# Altium schematic symbol library Schematic-Lib-PhilsLab.SchLib: 436 symbols (part 1 of 5)
Pins are listed as number, name and electrical type; pins without a type are passive.

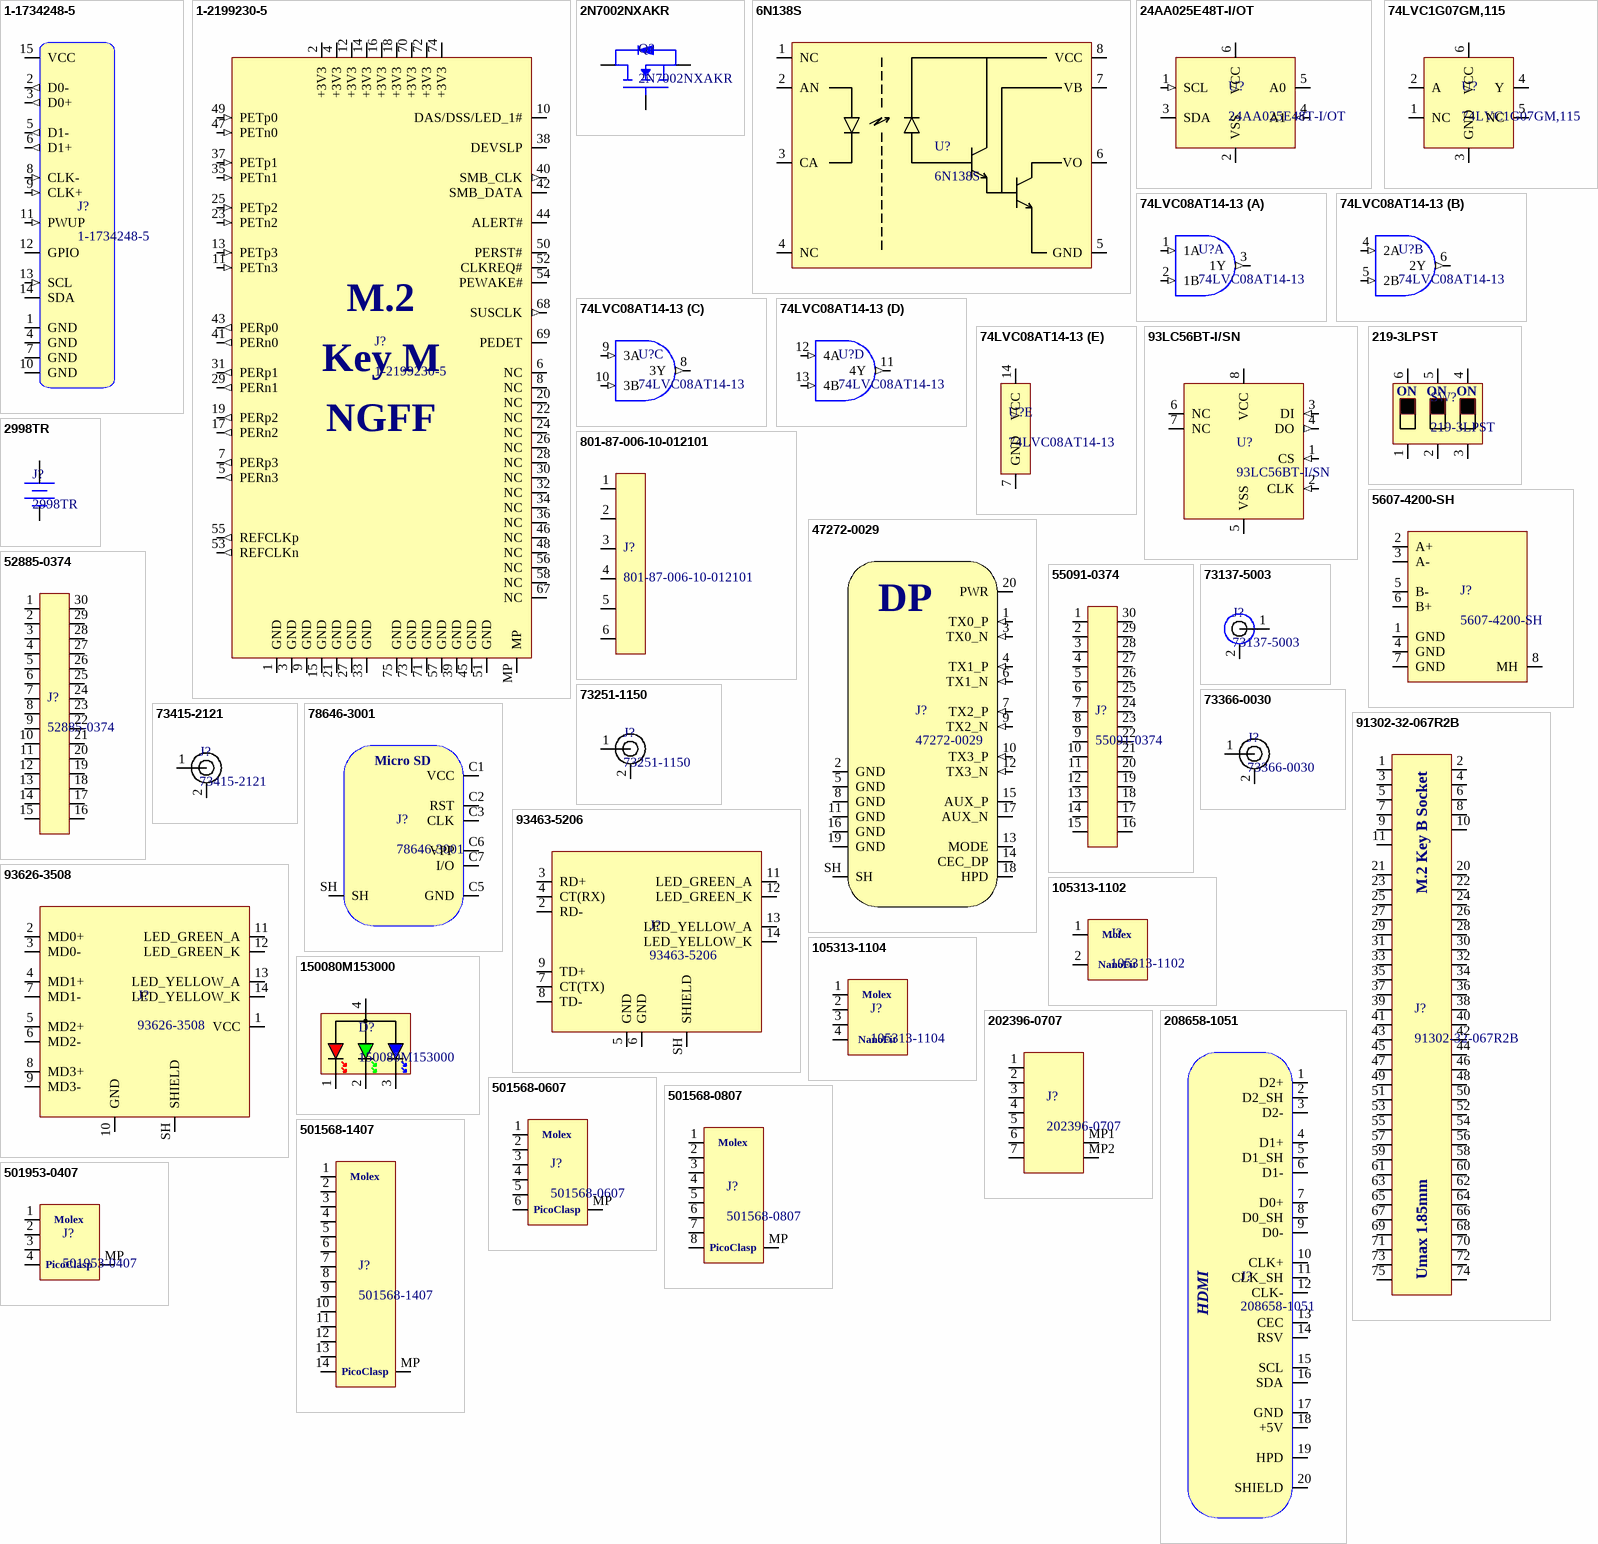
[diagram p0: symbols 1-1734248-5 to 501953-0407]

## 1-1734248-5
designator J?
FFC & FPC Connectors 15P 1.0 FPC, Zip V/T SMT; Manufacturer: TE Connectivity; Manufacturer Part Number: 1-1734248-5; Distributor Link: https://www.mouser.de/ProductDetail/TE-Connectivity/1-1734248-5?qs=sGAEpiMZZMvlX3nhDDO4AGJoiHpVI%252BrLj36UQiWnLiQ%3D; LCSC: C2922285
footprint 1-1734248-5
pins: 1 GND (power), 2 D0- (out), 3 D0+ (out), 4 GND (power), 5 D1- (out), 6 D1+ (out), 7 GND (power), 8 CLK- (in), 9 CLK+ (in), 10 GND (power), 11 PWUP (in), 12 GPIO (io), 13 SCL (in), 14 SDA (io), 15 VCC (power)

## 1-2199230-5
designator J?  (no BOM)
M.2 NGFF Key M Card Edge Connector 0.5mm Pitch 67 Position 4.2mm Height; Manufacturer: TE Connectivity; Manufacturer Part Number: 1-2199230-5; Distributor Link: https://eu.mouser.com/ProductDetail/TE-Connectivity/1-2199230-5?qs=N0TJGnUfxCD5L9UvFjPEwQ%3D%3D; LCSC: C590854
footprint 1-2199230-5
pins: 1 GND (power), 2 +3V3 (power), 3 GND (power), 4 +3V3 (power), 5 PERn3 (out), 6 NC, 7 PERp3 (out), 8 NC, 9 GND (power), 10 DAS/DSS/LED_1#, 11 PETn3 (in), 12 +3V3 (power), 13 PETp3 (in), 14 +3V3 (power), 15 GND (power), 16 +3V3 (power), 17 PERn2 (out), 18 +3V3 (power), 19 PERp2 (out), 20 NC, 21 GND (power), 22 NC, 23 PETn2 (in), 24 NC, 25 PETp2 (in), 26 NC, 27 GND (power), 28 NC, 29 PERn1 (out), 30 NC, 31 PERp1 (out), 32 NC, 33 GND (power), 34 NC, 35 PETn1 (in), 36 NC, 37 PETp1 (in), 38 DEVSLP, 39 GND (power), 40 SMB_CLK (out), 41 PERn0 (out), 42 SMB_DATA (io), 43 PERp0 (out), 44 ALERT#, 45 GND (power), 46 NC, 47 PETn0 (in), 48 NC, 49 PETp0 (in), 50 PERST#, 51 GND (power), 52 CLKREQ#, 53 REFCLKn (out), 54 PEWAKE#, 55 REFCLKp (out), 56 NC, 57 GND (power), 58 NC, 67 NC, 68 SUSCLK (out), 69 PEDET, 70 +3V3 (power), 71 GND (power), 72 +3V3 (power), 73 GND (power), 74 +3V3 (power), 75 GND (power), MP (power)
text: M.2; Key M; NGFF

## 2N7002NXAKR
designator Q?
MOSFET N-Channel Vds=60V Id=300mA with ESD Protection; Manufacturer: Nexperia; Manufacturer Part Number: 2N7002NXAKR
footprint SSM3J338R,LF-SOT23-F
pins: D, G, S

## 6N138S
designator U?
Single-Channel, High-Speed Optocoupler; Manufacturer: Lite-On; Manufacturer Part Number: 6N138S; Distributor Link: https://www.mouser.de/ProductDetail/Lite-On/6N138S?qs=PByDJ0nQNwpiJNZ8Mk8Kdw%3D%3D
footprint SMD-8
pins: 1 NC, 2 AN, 3 CA, 4 NC, 5 GND (power), 6 VO (oc), 7 VB (power), 8 VCC (power)

## 24AA025E48T-I/OT
designator U?
2-Kbit I2C Serial EEPROMs with EUI-48™ Node Identity; Manufacturer: Microchip; Manufacturer Part Number: 24AA025E48T-I/OT; Distributor Link: https://www.mouser.de/ProductDetail/Microchip-Technology/24AA025E48T-I-OT?qs=GCDK0xhvQh4RRiPFFnzHdA%3D%3D; LCSC: C129895
footprint SOT-23-6
pins: 1 SCL (in), 2 VSS (power), 3 SDA (io), 4 A1 (in), 5 A0 (power), 6 VCC (power)

## 74LVC1G07GM,115
designator U?
Open-Drain Buffer 3.3V/5V Non-Inverting XSON-6; Manufacturer: Nexperia; Manufacturer Part Number: 74LVC1G07GM,115
footprint XSON-6-SOT1202 (SON, 6-Leads, Body 0.98x1.00mm, Pitch 0.35mm, IPC Medium Density)
pins: 1 NC, 2 A, 3 GND, 4 Y, 5 NC, 6 VCC

## 74LVC08AT14-13
designator U?
QUADRUPLE 2-INPUT CMOS AND GATES; Manufacturer: Diodes Incorporated; Manufacturer Part Number: 74LVC08AT14-13; Distributor Link: https://eu.mouser.com/ProductDetail/Diodes-Incorporated/74LVC08AT14-13?qs=ZtY9WdtwX5535dJGuTpaIA%3D%3D
footprint TSSOP-14
part A pins: 1 1A (in), 2 1B (in), 3 1Y (out)
part B pins: 4 2A (in), 5 2B (in), 6 2Y (out)
part C pins: 8 3Y (out), 9 3A (in), 10 3B (in)
part D pins: 11 4Y (out), 12 4A (in), 13 4B (in)
part E pins: 7 GND (power), 14 VCC (power)

## 93LC56BT-I/SN
designator U?
2K Microwire Compatible Serial EEPROM; Manufacturer: Microchip; Manufacturer Part Number: 93LC56BT-I/SN; Distributor Link: https://www.mouser.de/ProductDetail/Microchip-Technology/93LC56BT-I-SN?qs=lQv0JY93vreW%252BBssv4v8RA%3D%3D; LCSC: C6164
footprint OLED Display: 128x64, 1.3", (Graphical OLED Display: 128x64, 1.3",)
pins: 1 CS (in), 2 CLK (in), 3 DI (in), 4 DO (out), 5 VSS (power), 6 NC, 7 NC, 8 VCC (power)

## 219-3LPST
designator SW?
DIP Switches SPST 3x; Manufacturer: CTS; Manufacturer Part Number: 219-3LPST
footprint 219-3LPST
pins: 1, 2, 3, 4, 5, 6
text: ON

## 801-87-006-10-012101
designator J?
Pin Socket 6 Position 2.54mm Pitch; Manufacturer: preci-dip; Manufacturer Part Number: 801-87-006-10-012101
footprint 801-87-006-10-012101
pins: 1, 2, 3, 4, 5, 6

## 2998TR
designator J?
Coin Cell Battery Holder 6.8mm; Manufacturer: Keystone Electronics; Manufacturer Part Number: 2998TR
footprint 2998TR (6.8mm Coin Cell Holder SMD)
pins: A, K

## 5607-4200-SH
designator J?
SATA Connector 7-Position 1.27mm Pitch Male Right Angle SMD; Manufacturer: 3M; Manufacturer Part Number: 5607-4200-SH
footprint 5607-4200-SH
pins: 1 GND, 2 A+, 3 A-, 4 GND, 5 B-, 6 B+, 7 GND, 8 MH

## 47272-0029
designator J?
DisplayPort Male Receptacle, Right-Angle, Surface Mount, 0.76µm Gold (Au) Plating, 20 Circuits, 0.50mm Pitch, without Cover, Lead-Free; Manufacturer: Molex; Manufacturer Part Number: 47272-0029; Distributor Link: https://eu.mouser.com/ProductDetail/Molex/47272-0029?qs=R8Vl3J6srxyrbHtT7SkUeQ%3D%3D
footprint 47272-0029
pins: 1 TX0_P (in), 2 GND (power), 3 TX0_N (in), 4 TX1_P (in), 5 GND (power), 6 TX1_N (in), 7 TX2_P (in), 8 GND (power), 9 TX2_N (in), 10 TX3_P (in), 11 GND (power), 12 TX3_N (in), 13 MODE, 14 CEC_DP, 15 AUX_P (io), 16 GND (power), 17 AUX_N (io), 18 HPD, 19 GND (power), 20 PWR (power), SH
text: DP

## 52885-0374
designator J?
SlimStack Board-to-Board Connector, 0.635mm Pitch, 0.635 Series, Receptacle, 6.00 to 10.00mm Mated Height, 6.40mm Mated Width, 30 Circuits; Manufacturer: Molex; Manufacturer Part Number: 52885-0374
footprint 52885-0374
pins: 1, 2, 3, 4, 5, 6, 7, 8, 9, 10, 11, 12, 13, 14, 15, 16, 17, 18, 19, 20, 21, 22, 23, 24, 25, 26, 27, 28, 29, 30

## 55091-0374
designator J?
SlimStack Board-to-Board Connector, 0.635mm Pitch, 0.635 Series, Plug, 6.00 or 12.00mm Mated Height, 6.40mm Mated Width, 30 Circuits; Manufacturer: Molex; Manufacturer Part Number: 55091-0374
footprint 55091-0374
pins: 1, 2, 3, 4, 5, 6, 7, 8, 9, 10, 11, 12, 13, 14, 15, 16, 17, 18, 19, 20, 21, 22, 23, 24, 25, 26, 27, 28, 29, 30

## 73137-5003
designator J?
BNC 50 Ohm, Right-Angle PCB Bulkhead Jack Receptacle, Panel Isolated, Black PBT Housing, Housing Height 13.20mm; Manufacturer: Molex; Manufacturer Part Number: 73137-5003
footprint 73137-5003
pins: 1, 2

## 73251-1150
designator J?
RF Connector 50 Ohms, SMA Jack Receptacle, Edge Mount, .25µm Gold (Au) Plating; Manufacturer: Molex; Manufacturer Part Number: 73251-1150
footprint 73251-1150
pins: 1, 2

## 73366-0030
designator J?
50 Ohms, MCX PCB Jack Receptacle, Right-Angle, 80; Manufacturer: Molex; Manufacturer Part Number: 73366-0030
footprint 73366-0030
pins: 1, 2

## 73415-2121
designator J?
RF Connector 50 Ohms, MMCX Vertical Plug, PCB, Plating Per Commercial Requirements, Bulk; Manufacturer: Molex; Manufacturer Part Number: 73415-2121
footprint 73415-2121
pins: 1, 2

## 78646-3001
designator J?
micro-SIM Card Socket without Detect Switch, 1.45mm Height, Push-Pull Eject, Surface Mount, 6 Circuits, Low-Halogen, Lead-Free; Manufacturer: Molex; Manufacturer Part Number: 78646-3001
footprint 78646-3001
pins: C1 VCC, C2 RST, C3 CLK, C5 GND, C6 VPP, C7 I/O, SH
text: Micro SD

## 91302-32-067R2B
designator J?
M.2 Key B Card Edge Connector 67 Position 0.5mm Pitch 1.85mm Card Height; Manufacturer: Umax; Manufacturer Part Number: 91302-32-067R2B; Distributor Link: https://www.lcsc.com/product-detail/Card-Edge-Connectors_UMAX-91302-32-067R2B_C1509731.html; LCSC: C1509731
footprint 91302-32-067R2B
pins: 1, 2, 3, 4, 5, 6, 7, 8, 9, 10, 11, 20, 21, 22, 23, 24, 25, 26, 27, 28, 29, 30, 31, 32, 33, 34, 35, 36, 37, 38, 39, 40, 41, 42, 43, 44, 45, 46, 47, 48, 49, 50, 51, 52, 53, 54, 55, 56, 57, 58, 59, 60, 61, 62, 63, 64, 65, 66, 67, 68, 69, 70, 71, 72, 73, 74, 75
text: M.2 Key B Socket; Umax 1.85mm

## 93463-5206
designator J?
MXMag Gigabit Ethernet 8 Core Non-PoE Single-Port RJ45 Connector, 21.40mm Depth, 3.30mm Phy Pin Length, Right-Angle, Inverted Profile, with Shield Tabs, with Green-Green LEDs, Standard Temperature, with 2kV Shield Connection, Tray; Manufacturer: Molex; Manufacturer Part Number: 93463-5206
footprint 93463-5206
pins: 2 RD- (io), 3 RD+ (io), 4 CT(RX), 5 GND (power), 6 GND (power), 7 CT(TX), 8 TD- (io), 9 TD+ (io), 11 LED_GREEN_A, 12 LED_GREEN_K, 13 LED_YELLOW_A, 14 LED_YELLOW_K, SH SHIELD (power)

## 93626-3508
designator J?
MXMag Gigabit Ethernet 8 Core Non-PoE Single-Port RJ45 Connector, 21.40mm Depth, 3.30mm Phy Pin Length, Right-Angle, Standard Profile, with Shield Tabs, with Green/Yellow-Green/Yellow LEDs, Standard Temperature, with 2kV Shield Connection; Manufacturer: Molex; Manufacturer Part Number: 93626-3508
footprint 93626-3508
pins: 1 VCC, 2 MD0+, 3 MD0-, 4 MD1+, 5 MD2+, 6 MD2-, 7 MD1-, 8 MD3+, 9 MD3-, 10 GND, 11 LED_GREEN_A, 12 LED_GREEN_K, 13 LED_YELLOW_A, 14 LED_YELLOW_K, SH SHIELD

## 105313-1102
designator J?
Nano-Fit Right-Angle Header, Through Hole, 2.50mm Pitch, Single Row, 2 Circuits, Tin (Sn) Plating, Black, Glow-Wire Capable, Tray; Manufacturer: Molex; Manufacturer Part Number: 105313-1102
footprint 105313-1102
pins: 1, 2
text: NanoFit

## 105313-1104
designator J?
Nano-Fit Right-Angle Header, Through Hole, 2.50mm Pitch, Single Row, 2 Circuits, Tin (Sn) Plating, Black, Glow-Wire Capable, Tray; Manufacturer: Molex; Manufacturer Part Number: 105313-1104
footprint 105313-1104
pins: 1, 2, 3, 4
text: NanoFit

## 150080M153000
designator D?
RGB LED Common Anode SMD Diffused 0805 Top View; Manufacturer: Wurth; Manufacturer Part Number: 150080M153000; Distributor Link: https://www.mouser.de/ProductDetail/Wurth-Elektronik/150080M153000?qs=5aG0NVq1C4wI5cZ2wabu5A%3D%3D
footprint 150080M153000
pins: 1 CR, 2 CG, 3 CB, 4 AC

## 202396-0707
designator J?
1.00mm Pitch, Pico-Clasp PCB Header, Single Row, Right-Angle, Surface Mount, 0.10µm Gold Plated, Inner Positive Lock, 7 Circuits, Natural; Manufacturer: Molex; Manufacturer Part Number: 202396-0707
footprint 202396-0707
pins: 1, 2, 3, 4, 5, 6, 7, MP1, MP2

## 208658-1051
designator J?
HDMI v2.1 Receptacle, Right-Angle, Gold Flash Plating, without Mylar, without Flange, Tape and Reel, 19 Circuits; Manufacturer: Molex; Manufacturer Part Number: 208658-1051
footprint 208658-1051
pins: 1 D2+, 2 D2_SH, 3 D2-, 4 D1+, 5 D1_SH, 6 D1-, 7 D0+, 8 D0_SH, 9 D0-, 10 CLK+, 11 CLK_SH, 12 CLK-, 13 CEC, 14 RSV, 15 SCL, 16 SDA, 17 GND, 18 +5V, 19 HPD, 20 SHIELD
text: HDMI

## 501568-0607
designator J?
1.00mm Pitch, Pico-Clasp PCB Header, Single Row, Right-Angle, Surface Mount, Tin Plated, Outer Positive Lock, 6 Circuits, Natural; Manufacturer: Molex; Manufacturer Part Number: 501568-0607
footprint 501568-0607
pins: 1, 2, 3, 4, 5, 6, MP
text: PicoClasp

## 501568-0807
designator J?
1.00mm Pitch, Pico-Clasp PCB Header, Single Row, Right-Angle, Surface Mount, Tin Plated, Outer Positive Lock, 8 Circuits, Natural; Manufacturer: Molex; Manufacturer Part Number: 501568-0807
footprint 501568-0807
pins: 1, 2, 3, 4, 5, 6, 7, 8, MP
text: PicoClasp

## 501568-1407
designator J?
1.00mm Pitch, Pico-Clasp PCB Header, Single Row, Right-Angle, Surface Mount, Tin Plated, Outer Positive Lock, 14 Circuits, Natural; Manufacturer: Molex; Manufacturer Part Number: 501568-1407
footprint 501568-1407
pins: 1, 2, 3, 4, 5, 6, 7, 8, 9, 10, 11, 12, 13, 14, MP
text: PicoClasp

## 501953-0407
designator J?
1.00mm Pitch, Pico-Clasp PCB Header, Single Row, Right-Angle, Surface Mount, 1.01µm Tin Plated, Outer Positive Lock, 4 Circuits, Natural; Manufacturer: Molex; Manufacturer Part Number: 501953-0407
footprint 501953-0407
pins: 1, 2, 3, 4, MP
text: PicoClasp

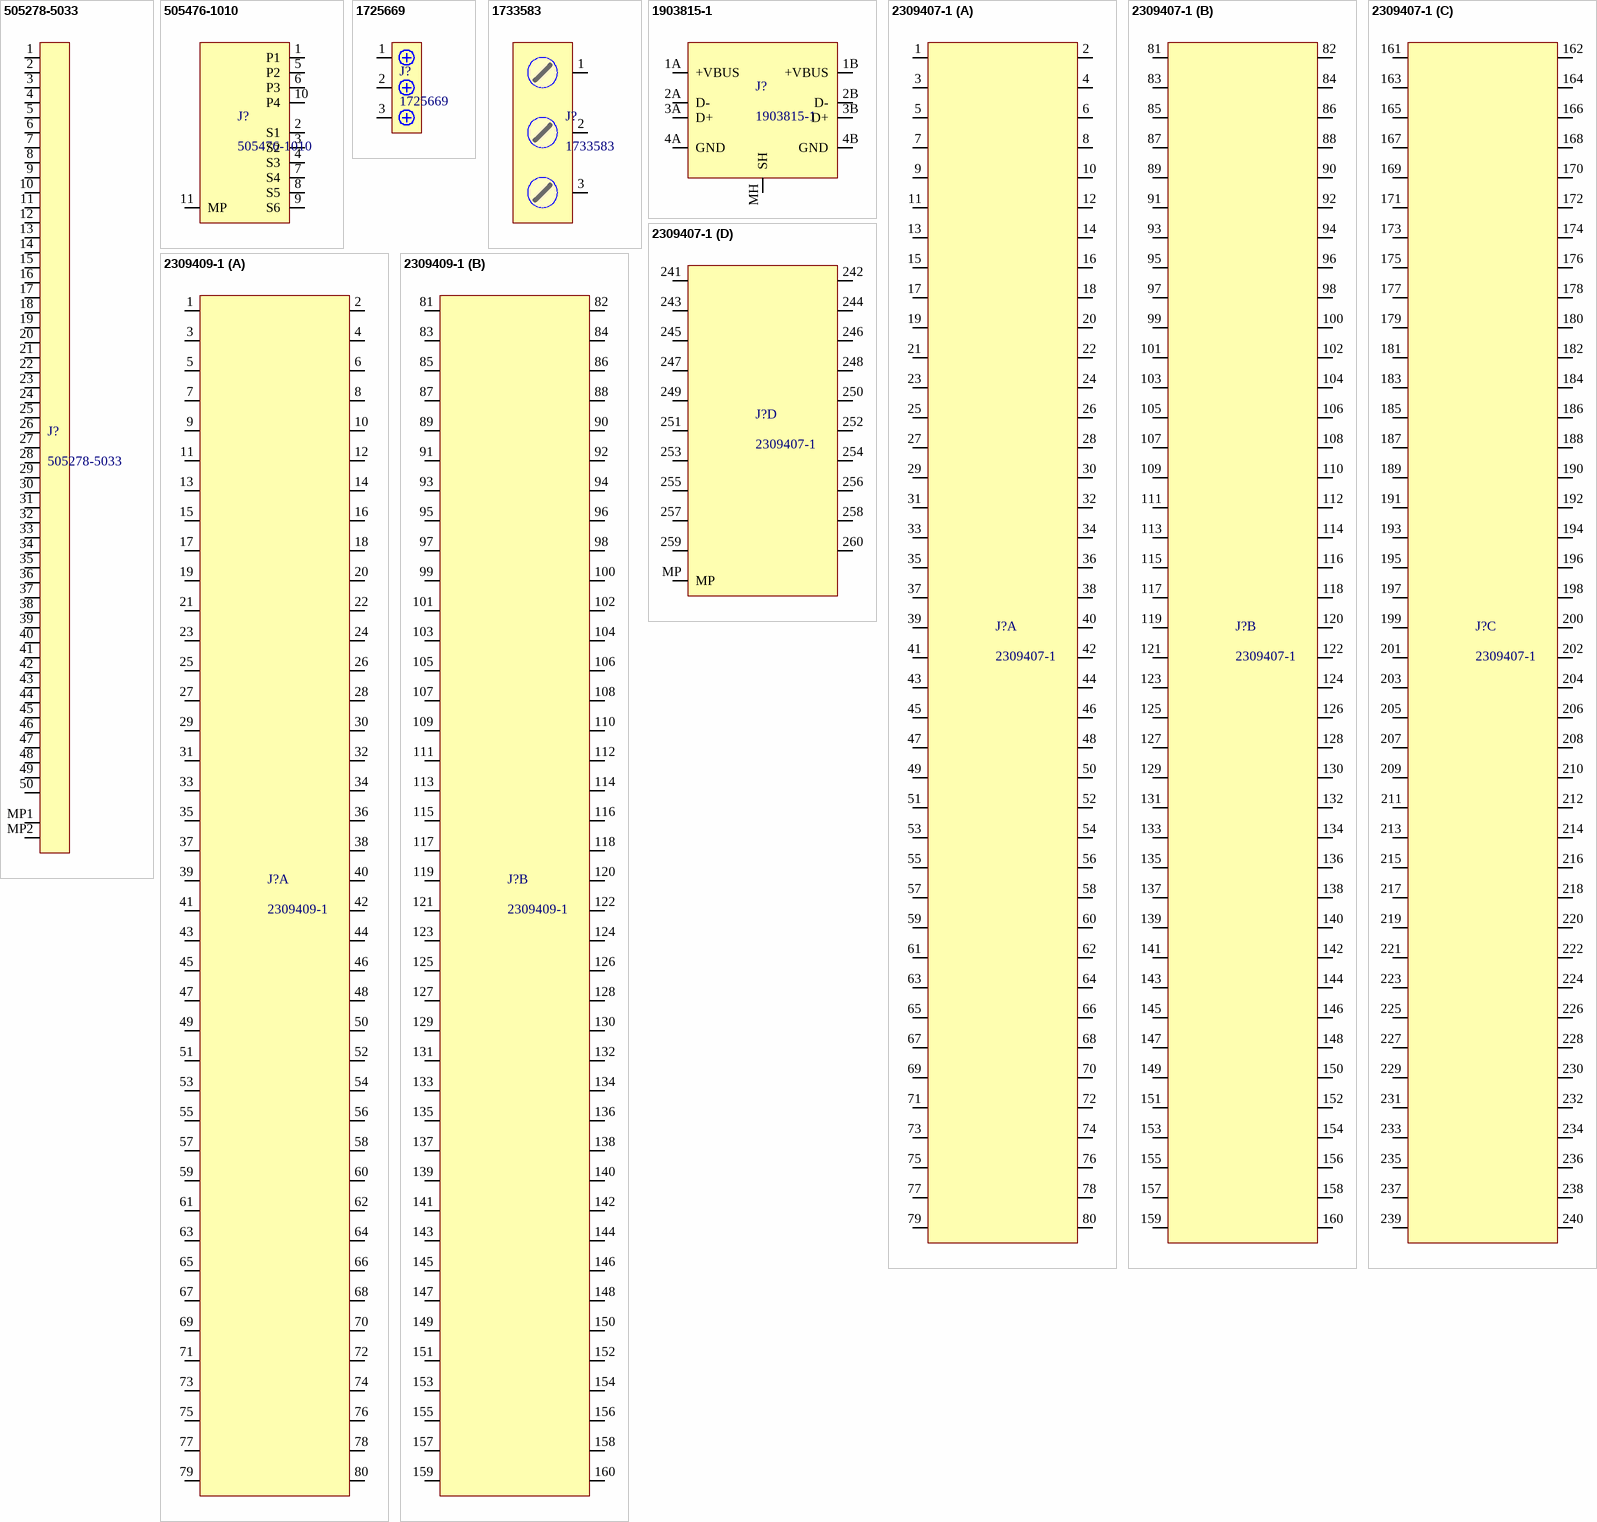
[diagram p1: symbols 505278-5033 to 2309409-1]

## 505278-5033
designator J?
FFC Connector 50 Position 0.5mm Pitch Bottom Contact ZIF; Manufacturer: Molex; Manufacturer Part Number: 505278-5033
footprint 505278-5033
pins: 1, 2, 3, 4, 5, 6, 7, 8, 9, 10, 11, 12, 13, 14, 15, 16, 17, 18, 19, 20, 21, 22, 23, 24, 25, 26, 27, 28, 29, 30, 31, 32, 33, 34, 35, 36, 37, 38, 39, 40, 41, 42, 43, 44, 45, 46, 47, 48, 49, 50, MP1, MP2

## 505476-1010
designator J?
SlimStack Board-to-Board Plug, 0.40mm Pitch, Battery Series, 0.60mm Mated Height, 2.00mm Mated Width, 10 Circuits, 10.0A; Manufacturer: Molex; Manufacturer Part Number: 505476-1010
footprint 505476-1010
pins: 1 P1 (power), 2 S1 (io), 3 S2 (io), 4 S3 (io), 5 P2 (power), 6 P3 (power), 7 S4 (io), 8 S5 (io), 9 S6 (io), 10 P4 (power), 11 MP

## 1725669
designator J?
Screw Terminal Block 3 Positions 2.54mm; Manufacturer: Phoenix; Manufacturer Part Number: 1725669; Distributor Link: https://www.mouser.de/ProductDetail/Phoenix-Contact/1725669?qs=A%2FKWGUWTCZjmkTL0Oe91ew%3D%3D
footprint 1725669
pins: 1, 2, 3

## 1733583
designator J?
Screw Terminal 3 Position 5.08mm Pitch Phoenix; Manufacturer: Phoenix Contact; Manufacturer Part Number: 1733583
footprint 1733583
pins: 1, 2, 3

## 1903815-1
designator J?
USB Connectors, A, 2.0, Standard Profile, Female Receptacle, 2 Port, Top, Right Angle, IP20, Offset, Industrial USB IP20; Manufacturer: TE Connectivity; Manufacturer Part Number: 1903815-1
footprint 1903815-1
pins: 1A +VBUS, 1B +VBUS, 2A D-, 2B D-, 3A D+, 3B D+, 4A GND, 4B GND, MH SH

## 2309407-1
designator J?
SO DIMM Socket, Small Outline (SO), Stack Height .157 in [4 mm], Right Angle Module Orientation, 260 Position, DDR4 DIMM; Manufacturer: TE Connectivity; Manufacturer Part Number: 2309407-1
footprint 2309407-1
part A pins: 1, 2, 3, 4, 5, 6, 7, 8, 9, 10, 11, 12, 13, 14, 15, 16, 17, 18, 19, 20, 21, 22, 23, 24, 25, 26, 27, 28, 29, 30, 31, 32, 33, 34, 35, 36, 37, 38, 39, 40, 41, 42, 43, 44, 45, 46, 47, 48, 49, 50, 51, 52, 53, 54, 55, 56, 57, 58, 59, 60, 61, 62, 63, 64, 65, 66, 67, 68, 69, 70, 71, 72, 73, 74, 75, 76, 77, 78, 79, 80
part B pins: 81, 82, 83, 84, 85, 86, 87, 88, 89, 90, 91, 92, 93, 94, 95, 96, 97, 98, 99, 100, 101, 102, 103, 104, 105, 106, 107, 108, 109, 110, 111, 112, 113, 114, 115, 116, 117, 118, 119, 120, 121, 122, 123, 124, 125, 126, 127, 128, 129, 130, 131, 132, 133, 134, 135, 136, 137, 138, 139, 140, 141, 142, 143, 144, 145, 146, 147, 148, 149, 150, 151, 152, 153, 154, 155, 156, 157, 158, 159, 160
part C pins: 161, 162, 163, 164, 165, 166, 167, 168, 169, 170, 171, 172, 173, 174, 175, 176, 177, 178, 179, 180, 181, 182, 183, 184, 185, 186, 187, 188, 189, 190, 191, 192, 193, 194, 195, 196, 197, 198, 199, 200, 201, 202, 203, 204, 205, 206, 207, 208, 209, 210, 211, 212, 213, 214, 215, 216, 217, 218, 219, 220, 221, 222, 223, 224, 225, 226, 227, 228, 229, 230, 231, 232, 233, 234, 235, 236, 237, 238, 239, 240
part D pins: 241, 242, 243, 244, 245, 246, 247, 248, 249, 250, 251, 252, 253, 254, 255, 256, 257, 258, 259, 260, MP

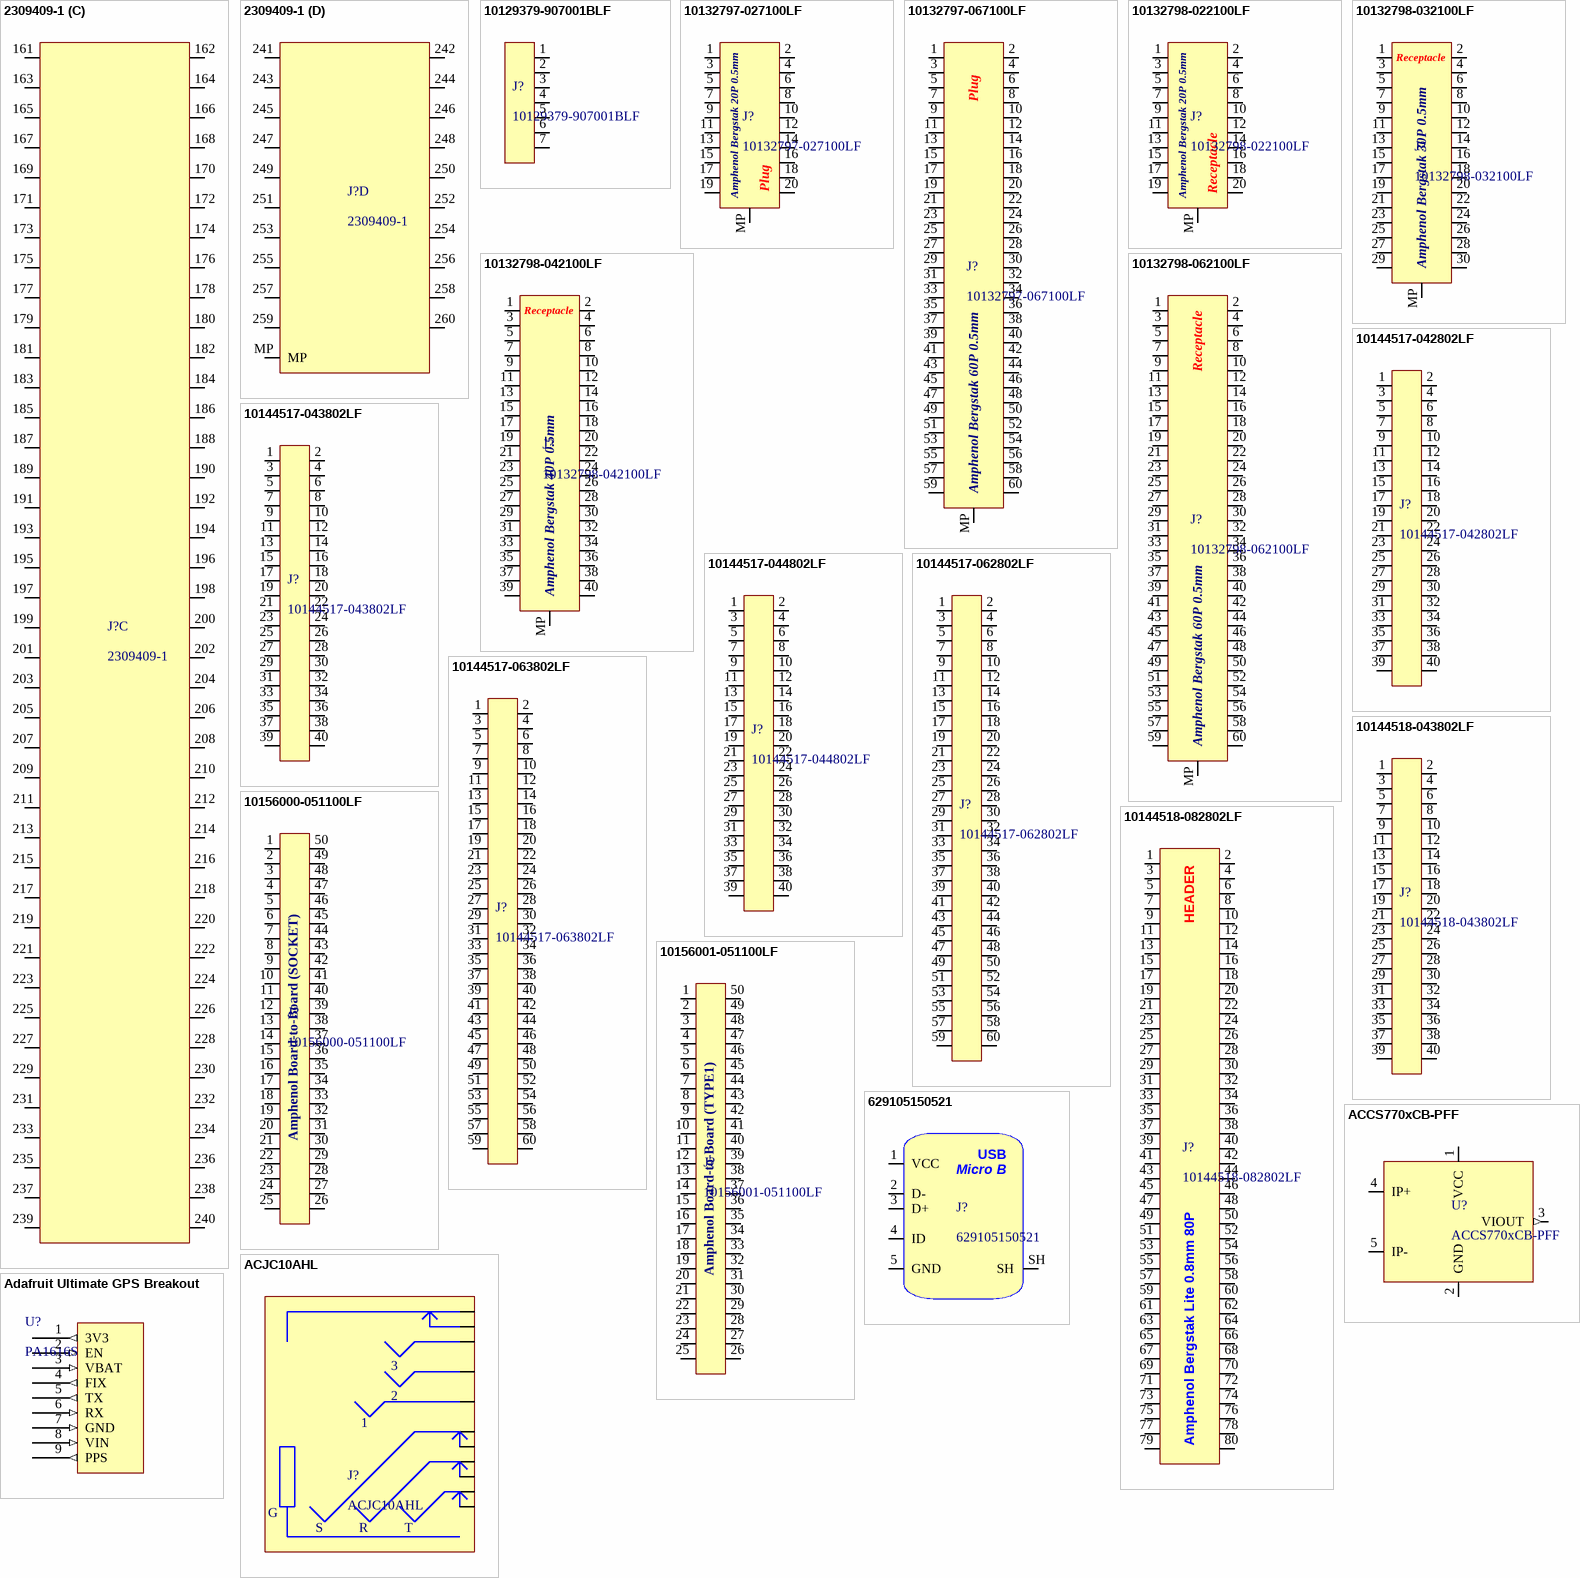
[diagram p2: symbols 2309409-1 to Adafruit Ultimate GPS Breakout]

## 2309409-1
designator J?
SO DIMM Socket, Small Outline (SO), Stack Height .205 in [5.2 mm], Right Angle Module Orientation, 260 Position, DDR4 DIMM; Manufacturer: TE Connectivity; Manufacturer Part Number: 2309409-1
footprint 2309409-1
part A pins: 1, 2, 3, 4, 5, 6, 7, 8, 9, 10, 11, 12, 13, 14, 15, 16, 17, 18, 19, 20, 21, 22, 23, 24, 25, 26, 27, 28, 29, 30, 31, 32, 33, 34, 35, 36, 37, 38, 39, 40, 41, 42, 43, 44, 45, 46, 47, 48, 49, 50, 51, 52, 53, 54, 55, 56, 57, 58, 59, 60, 61, 62, 63, 64, 65, 66, 67, 68, 69, 70, 71, 72, 73, 74, 75, 76, 77, 78, 79, 80
part B pins: 81, 82, 83, 84, 85, 86, 87, 88, 89, 90, 91, 92, 93, 94, 95, 96, 97, 98, 99, 100, 101, 102, 103, 104, 105, 106, 107, 108, 109, 110, 111, 112, 113, 114, 115, 116, 117, 118, 119, 120, 121, 122, 123, 124, 125, 126, 127, 128, 129, 130, 131, 132, 133, 134, 135, 136, 137, 138, 139, 140, 141, 142, 143, 144, 145, 146, 147, 148, 149, 150, 151, 152, 153, 154, 155, 156, 157, 158, 159, 160
part C pins: 161, 162, 163, 164, 165, 166, 167, 168, 169, 170, 171, 172, 173, 174, 175, 176, 177, 178, 179, 180, 181, 182, 183, 184, 185, 186, 187, 188, 189, 190, 191, 192, 193, 194, 195, 196, 197, 198, 199, 200, 201, 202, 203, 204, 205, 206, 207, 208, 209, 210, 211, 212, 213, 214, 215, 216, 217, 218, 219, 220, 221, 222, 223, 224, 225, 226, 227, 228, 229, 230, 231, 232, 233, 234, 235, 236, 237, 238, 239, 240
part D pins: 241, 242, 243, 244, 245, 246, 247, 248, 249, 250, 251, 252, 253, 254, 255, 256, 257, 258, 259, 260, MP

## 10129379-907001BLF
designator J?
EconoStik™ 2.54mm, Board to Board Connector, Unshrouded Right Angled Header, Through Hole, Single Row, 7 Positions, 2.54 mm (0.100in) Pitch; Manufacturer: Amphenol; Manufacturer Part Number: 10129379-907001BLF
footprint 10129379-907001BLF
pins: 1, 2, 3, 4, 5, 6, 7

## 10132797-027100LF
designator J?
BergStak® 0.5mm Mezzanine Connector, Board To Board Connectors, 20 position, 5.3mm height plug connector; Manufacturer: Amphenol; Manufacturer Part Number: 10132797-027100LF
footprint 10132797-027100LF
pins: 1, 2, 3, 4, 5, 6, 7, 8, 9, 10, 11, 12, 13, 14, 15, 16, 17, 18, 19, 20, MP
text: Amphenol Bergstak 20P 0.5mm; Plug

## 10132797-067100LF
designator J?
BergStak® 0.5mm Mezzanine Connector, Board To Board Connectors, 60 position, 5.3mm height plug connector; Manufacturer: Amphenol; Manufacturer Part Number: 10132797-067100LF
footprint 10132797-067100LF
pins: 1, 2, 3, 4, 5, 6, 7, 8, 9, 10, 11, 12, 13, 14, 15, 16, 17, 18, 19, 20, 21, 22, 23, 24, 25, 26, 27, 28, 29, 30, 31, 32, 33, 34, 35, 36, 37, 38, 39, 40, 41, 42, 43, 44, 45, 46, 47, 48, 49, 50, 51, 52, 53, 54, 55, 56, 57, 58, 59, 60, MP
text: Plug; Amphenol Bergstak 60P 0.5mm

## 10132798-022100LF
designator J?
BergStak® 0.5mm Mezzanine Connector, Board To Board Connectors, 20 position, 2.7mm height receptacle connector; Manufacturer: Amphenol; Manufacturer Part Number: 10132798-022100LF
footprint 10132798-022100LF
pins: 1, 2, 3, 4, 5, 6, 7, 8, 9, 10, 11, 12, 13, 14, 15, 16, 17, 18, 19, 20, MP
text: Amphenol Bergstak 20P 0.5mm; Receptacle

## 10132798-032100LF
designator J?
BergStak® 0.5mm Mezzanine Connector, Board To Board Connectors, 30 position, 2.7mm height receptacle connector; Manufacturer: Amphenol; Manufacturer Part Number: 10132798-032100LF
footprint 10132798-032100LF
pins: 1, 2, 3, 4, 5, 6, 7, 8, 9, 10, 11, 12, 13, 14, 15, 16, 17, 18, 19, 20, 21, 22, 23, 24, 25, 26, 27, 28, 29, 30, MP
text: Receptacle; Amphenol Bergstak 30P 0.5mm

## 10132798-042100LF
designator J?
BergStak® 0.5mm Mezzanine Connector, Board To Board Connectors, 40 position, 2.7mm height receptacle connector; Manufacturer: Amphenol; Manufacturer Part Number: 10132798-042100LF
footprint 10132798-042100LF
pins: 1, 2, 3, 4, 5, 6, 7, 8, 9, 10, 11, 12, 13, 14, 15, 16, 17, 18, 19, 20, 21, 22, 23, 24, 25, 26, 27, 28, 29, 30, 31, 32, 33, 34, 35, 36, 37, 38, 39, 40, MP
text: Receptacle; Amphenol Bergstak 40P 0.5mm

## 10132798-062100LF
designator J?
BergStak® 0.5mm Mezzanine Connector, Board To Board Connectors, 60 position, 2.7mm height receptacle connector; Manufacturer: Amphenol; Manufacturer Part Number: 10132798-062100LF
footprint 10132798-062100LF
pins: 1, 2, 3, 4, 5, 6, 7, 8, 9, 10, 11, 12, 13, 14, 15, 16, 17, 18, 19, 20, 21, 22, 23, 24, 25, 26, 27, 28, 29, 30, 31, 32, 33, 34, 35, 36, 37, 38, 39, 40, 41, 42, 43, 44, 45, 46, 47, 48, 49, 50, 51, 52, 53, 54, 55, 56, 57, 58, 59, 60, MP
text: Receptacle; Amphenol Bergstak 60P 0.5mm

## 10144517-042802LF
designator J?
BergStak Lite 0.80mm Board-to-Board Connector 40 Position Dual Row Vertical Receptacle 7.7mm Stack Height; Manufacturer: Amphenol; Manufacturer Part Number: 10144517-042802LF
footprint 10144517-042802LF
pins: 1, 2, 3, 4, 5, 6, 7, 8, 9, 10, 11, 12, 13, 14, 15, 16, 17, 18, 19, 20, 21, 22, 23, 24, 25, 26, 27, 28, 29, 30, 31, 32, 33, 34, 35, 36, 37, 38, 39, 40

## 10144517-043802LF
designator J?
BergStak Lite 0.80mm Board-to-Board Connector 40 Position Dual Row Vertical Receptacle 11.7mm Stack Height; Manufacturer: Amphenol; Manufacturer Part Number: 10144517-043802LF
footprint 10144517-043802LF
pins: 1, 2, 3, 4, 5, 6, 7, 8, 9, 10, 11, 12, 13, 14, 15, 16, 17, 18, 19, 20, 21, 22, 23, 24, 25, 26, 27, 28, 29, 30, 31, 32, 33, 34, 35, 36, 37, 38, 39, 40

## 10144517-044802LF
designator J?
BergStak Lite 0.80mm Board-to-Board Connector 40 Position Dual Row Vertical Receptacle 15.7mm Stack Height; Manufacturer: Amphenol; Manufacturer Part Number: 10144517-044802LF
footprint 10144517-044802LF
pins: 1, 2, 3, 4, 5, 6, 7, 8, 9, 10, 11, 12, 13, 14, 15, 16, 17, 18, 19, 20, 21, 22, 23, 24, 25, 26, 27, 28, 29, 30, 31, 32, 33, 34, 35, 36, 37, 38, 39, 40

## 10144517-062802LF
designator J?
BergStak Lite 0.80mm, Board-to-Board Connector, 60 Positions, Dual Row, Vertical Receptacle; Manufacturer: Amphenol; Manufacturer Part Number: 10144517-062802LF
footprint 10144517-062802LF
pins: 1, 2, 3, 4, 5, 6, 7, 8, 9, 10, 11, 12, 13, 14, 15, 16, 17, 18, 19, 20, 21, 22, 23, 24, 25, 26, 27, 28, 29, 30, 31, 32, 33, 34, 35, 36, 37, 38, 39, 40, 41, 42, 43, 44, 45, 46, 47, 48, 49, 50, 51, 52, 53, 54, 55, 56, 57, 58, 59, 60

## 10144517-063802LF
designator J?
BergStak Lite 0.80mm, Board-to-Board Connector, 60 Positions, Dual Row, Vertical Receptacle; Manufacturer: Amphenol; Manufacturer Part Number: 10144517-063802LF
footprint 10144517-063802LF
pins: 1, 2, 3, 4, 5, 6, 7, 8, 9, 10, 11, 12, 13, 14, 15, 16, 17, 18, 19, 20, 21, 22, 23, 24, 25, 26, 27, 28, 29, 30, 31, 32, 33, 34, 35, 36, 37, 38, 39, 40, 41, 42, 43, 44, 45, 46, 47, 48, 49, 50, 51, 52, 53, 54, 55, 56, 57, 58, 59, 60

## 10144518-043802LF
designator J?
BergStak Lite 0.80mm Board-to-Board Connector 40 Position Dual Row Vertical Header; Manufacturer: Amphenol; Manufacturer Part Number: 10144518-043802LF
footprint 10144518-043802LF
pins: 1, 2, 3, 4, 5, 6, 7, 8, 9, 10, 11, 12, 13, 14, 15, 16, 17, 18, 19, 20, 21, 22, 23, 24, 25, 26, 27, 28, 29, 30, 31, 32, 33, 34, 35, 36, 37, 38, 39, 40

## 10144518-082802LF
designator J?
BergStak® Lite 0.80mm, Board-to-Board Connector, 80 Positions, Dual Row, Vertical Header; Manufacturer: Amphenol; Manufacturer Part Number: 10144518-082802LF
footprint 10144518-082802LF
pins: 1, 2, 3, 4, 5, 6, 7, 8, 9, 10, 11, 12, 13, 14, 15, 16, 17, 18, 19, 20, 21, 22, 23, 24, 25, 26, 27, 28, 29, 30, 31, 32, 33, 34, 35, 36, 37, 38, 39, 40, 41, 42, 43, 44, 45, 46, 47, 48, 49, 50, 51, 52, 53, 54, 55, 56, 57, 58, 59, 60, 61, 62, 63, 64, 65, 66, 67, 68, 69, 70, 71, 72, 73, 74, 75, 76, 77, 78, 79, 80
text: HEADER; Amphenol Bergstak Lite 0.8mm 80P

## 10156000-051100LF
designator J?
Board-to-Board Connector 0.5mm Pitch 50 Position 2 Row; Manufacturer: Amphenol FCI; Manufacturer Part Number: 10156000-051100LF
footprint 10156000-051100LF
pins: 1, 2, 3, 4, 5, 6, 7, 8, 9, 10, 11, 12, 13, 14, 15, 16, 17, 18, 19, 20, 21, 22, 23, 24, 25, 26, 27, 28, 29, 30, 31, 32, 33, 34, 35, 36, 37, 38, 39, 40, 41, 42, 43, 44, 45, 46, 47, 48, 49, 50
text: Amphenol Board-to-Board (SOCKET)

## 10156001-051100LF
designator J?
Board-to-Board Connector 0.5mm Pitch 50 Position 2 Row; Manufacturer: Amphenol FCI; Manufacturer Part Number: 10156001-051100LF
footprint 10156001-051100LF
pins: 1, 2, 3, 4, 5, 6, 7, 8, 9, 10, 11, 12, 13, 14, 15, 16, 17, 18, 19, 20, 21, 22, 23, 24, 25, 26, 27, 28, 29, 30, 31, 32, 33, 34, 35, 36, 37, 38, 39, 40, 41, 42, 43, 44, 45, 46, 47, 48, 49, 50
text: Amphenol Board-to-Board (TYPE1)

## 629105150521
designator J?
USB Connector Type Micro B 2.0 SMD; Manufacturer: Wurth; Manufacturer Part Number: 629105150521; Distributor Link: https://www.mouser.de/ProductDetail/Wurth-Elektronik/629105150521?qs=a9WhcLg8qCzXiH7kZP8GRQ%3D%3D
footprint 629105150521
pins: 1 VCC, 2 D-, 3 D+, 4 ID, 5 GND, SH
text: USB; Micro B

## ACCS770xCB-PFF
designator U?
Thermally Enhanced, Fully Integrated, Hall-Effect-Based / High-Precision Linear Current Sensor IC with 100 µΩ Current Conductor PFF Leadform; Manufacturer: Allegro MicroSystems; Manufacturer Part Number: ACS770*CB-*-PFF
footprint ACS770-PFF
pins: 1 VCC (power), 2 GND (power), 3 VIOUT (out), 4 IP+ (power), 5 IP- (power)

## ACJC10AHL
designator J?
1/4" STEREO/XLR PCB 10 SKT LOW P
footprint ACJC10AHL (1/4" STEREO/XLR PCB 10 SKT LOW P)
pins: 1, 2, 3, G, GN, R, RN, S, SN, T, TN

## Adafruit Ultimate GPS Breakout
designator U?, comment PA1616S
Adafruit Ultimate GPS Breakout - 66 channel w/10 Hz updates - PA1616S
footprint Adafruit Ultimate GPS
pins: 1 3V3 (out), 2 EN (in), 3 VBAT (in), 4 FIX (out), 5 TX (out), 6 RX (in), 7 GND (in), 8 VIN (in), 9 PPS (out)

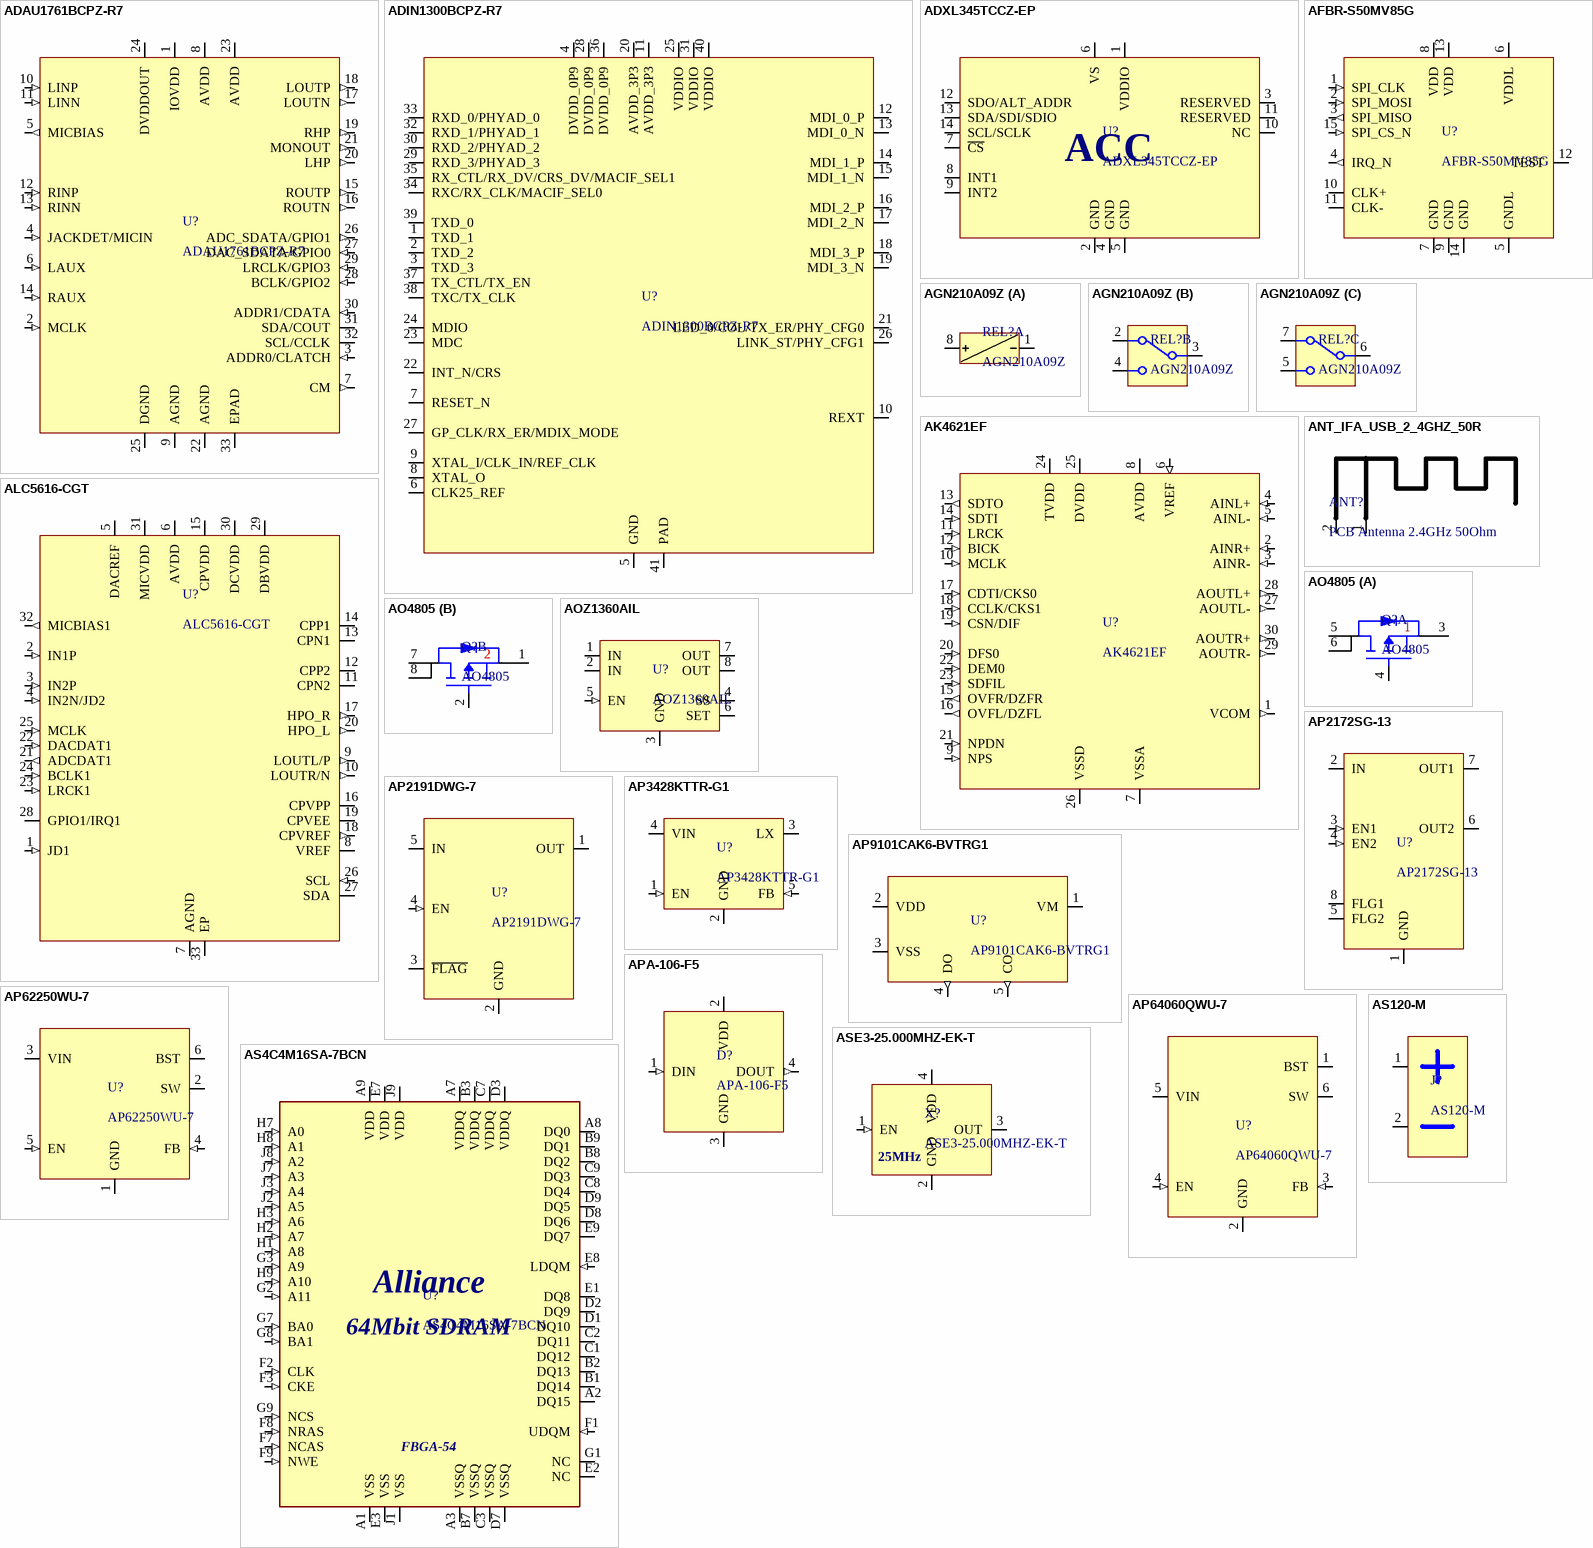
[diagram p3: symbols ADAU1761BCPZ-R7 to ASE3-25.000MHZ-EK-T]

## ADAU1761BCPZ-R7
designator U?
Manufacturer: Analog Devices; Manufacturer Part Number: ADAU1761BCPZ-R7
footprint LFCSP-VQ
pins: 1 IOVDD (power), 2 MCLK (in), 3 ADDR0/CLATCH (in), 4 JACKDET/MICIN (in), 5 MICBIAS (out), 6 LAUX (in), 7 CM (out), 8 AVDD (power), 9 AGND (power), 10 LINP (in), 11 LINN (in), 12 RINP (in), 13 RINN (in), 14 RAUX (in), 15 ROUTP (out), 16 ROUTN (out), 17 LOUTN (out), 18 LOUTP (out), 19 RHP (out), 20 LHP (out), 21 MONOUT (out), 22 AGND (power), 23 AVDD (power), 24 DVDDOUT (power), 25 DGND (power), 26 ADC_SDATA/GPIO1 (out), 27 DAC_SDATA/GPIO0 (in), 28 BCLK/GPIO2 (in), 29 LRCLK/GPIO3 (in), 30 ADDR1/CDATA (in), 31 SDA/COUT (oc), 32 SCL/CCLK (oc), 33 EPAD (power)

## ADIN1300BCPZ-R7
designator U?
Gigabit Ethernet PHY MII/RGMII/RMII; Manufacturer: Analog Devices; Manufacturer Part Number: ADIN1300BCPZ-R7
footprint LFCSP-CP-40-26 (QFN, 40-Leads, Body 6,00x6,00mm, Pitch 0,50mm, Thermal Pad 2,77x2,77mm, IPC Medium Density)
pins: 1 TXD_1, 2 TXD_2, 3 TXD_3, 4 DVDD_0P9, 5 GND, 6 CLK25_REF, 7 RESET_N, 8 XTAL_O, 9 XTAL_I/CLK_IN/REF_CLK, 10 REXT, 11 AVDD_3P3, 12 MDI_0_P, 13 MDI_0_N, 14 MDI_1_P, 15 MDI_1_N, 16 MDI_2_P, 17 MDI_2_N, 18 MDI_3_P, 19 MDI_3_N, 20 AVDD_3P3, 21 LED_0/COL/TX_ER/PHY_CFG0, 22 INT_N/CRS, 23 MDC, 24 MDIO, 25 VDDIO, 26 LINK_ST/PHY_CFG1, 27 GP_CLK/RX_ER/MDIX_MODE, 28 DVDD_0P9, 29 RXD_3/PHYAD_3, 30 RXD_2/PHYAD_2, 31 VDDIO, 32 RXD_1/PHYAD_1, 33 RXD_0/PHYAD_0, 34 RXC/RX_CLK/MACIF_SEL0, 35 RX_CTL/RX_DV/CRS_DV/MACIF_SEL1, 36 DVDD_0P9, 37 TX_CTL/TX_EN, 38 TXC/TX_CLK, 39 TXD_0, 40 VDDIO, 41 PAD

## ADXL345TCCZ-EP
designator U?
3-Axis, ±2 g/±4 g/±8 g/±16 g Digital Accelerometer Extended Performance SPI/I2C; Manufacturer: Analog Devices; Manufacturer Part Number: ADXL345TCCZ-EP
footprint LGA_CC-14-1_ADI
pins: 1 VDDIO, 2 GND, 3 RESERVED, 4 GND, 5 GND, 6 VS, 7 ~{CS}, 8 INT1, 9 INT2, 10 NC, 11 RESERVED, 12 SDO/ALT_ADDR, 13 SDA/SDI/SDIO, 14 SCL/SCLK
text: ACC

## AFBR-S50MV85G
designator U?
Time-of-Flight Sensor Module for Distance and Motion Measurement; Manufacturer: Broadcom; Manufacturer Part Number: AFBR-S50MV85G; Distributor Link: https://www.mouser.de/ProductDetail/Broadcom-Avago/AFBR-S50MV85G?qs=gZXFycFWdAMjTxpgATYDVg%3D%3D
footprint AFBR-S50MV*
pins: 1 SPI_CLK (in), 2 SPI_MOSI (in), 3 SPI_MISO (out), 4 IRQ_N (out), 5 GNDL (power), 6 VDDL (power), 7 GND (power), 8 VDD (power), 9 GND (power), 10 CLK+ (io), 11 CLK- (io), 12 TEST, 13 VDD (power), 14 GND (power), 15 SPI_CS_N (in)

## AGN210A09Z
designator REL?
Ultra-Miniature Relay DPDT SMT; Manufacturer: Panasonic; Manufacturer Part Number: AGN210A09Z; Distributor Link: https://www.mouser.de/ProductDetail/Panasonic-Industrial-Devices/AGN210A09Z?qs=YINDDaGsG3Hk3qO10oXUPw%3D%3D
footprint AGN2-0A
part A pins: 1 C-, 8 C+
part B pins: 2 NC1, 3 COM1, 4 NO1
part C pins: 5 NO2, 6 COM2, 7 NC2

## AK4621EF
designator U?
115dB 192kHz 24-bit 2 ch ADC & 2 ch DAC with Low Latency Digital Filter; Manufacturer: AKM; Manufacturer Part Number: AK4621EF
footprint VSOP-30
pins: 1 VCOM (out), 2 AINR+ (in), 3 AINR- (in), 4 AINL+ (in), 5 AINL- (in), 6 VREF (in), 7 VSSA (power), 8 AVDD (power), 9 NPS (in), 10 MCLK (in), 11 LRCK (in), 12 BICK (in), 13 SDTO (out), 14 SDTI (in), 15 OVFR/DZFR (out), 16 OVFL/DZFL (out), 17 CDTI/CKS0 (in), 18 CCLK/CKS1 (in), 19 CSN/DIF (in), 20 DFS0 (in), 21 NPDN (in), 22 DEM0 (in), 23 SDFIL (in), 24 TVDD (power), 25 DVDD (power), 26 VSSD (power), 27 AOUTL- (out), 28 AOUTL+ (out), 29 AOUTR- (out), 30 AOUTR+ (out)

## ALC5616-CGT
designator U?
Ultra-Low Power Audio CODEC; Manufacturer: Realtek; Manufacturer Part Number: ALC5616-CGT
footprint QFN-32-4x4 (QFN, 32-Leads, Body 4.00x4.00mm, Pitch 0.40mm, Thermal Pad 2.70x2.70mm, IPC Medium Density)
pins: 1 JD1 (in), 2 IN1P (in), 3 IN2P (in), 4 IN2N/JD2 (in), 5 DACREF (power), 6 AVDD (power), 7 AGND (power), 8 VREF (power), 9 LOUTL/P (out), 10 LOUTR/N (out), 11 CPN2 (power), 12 CPP2 (power), 13 CPN1 (power), 14 CPP1 (power), 15 CPVDD (power), 16 CPVPP, 17 HPO_R (out), 18 CPVREF (out), 19 CPVEE, 20 HPO_L (out), 21 ADCDAT1 (out), 22 DACDAT1 (in), 23 LRCK1 (in), 24 BCLK1 (in), 25 MCLK (in), 26 SCL (in), 27 SDA (io), 28 GPIO1/IRQ1 (io), 29 DBVDD (power), 30 DCVDD (power), 31 MICVDD (power), 32 MICBIAS1 (out), 33 EP (power)

## ANT_IFA_USB_2_4GHZ_50R
designator ANT?, comment PCB Antenna 2.4GHz 50Ohm  (no BOM)
Inverted F 2.4GHz ISM PCB Antenna 50 Ohm; ComponentLink1Description: Datasheet; ComponentLink1URL: https://www.ti.com/lit/an/swra117d/swra117d.pdf
footprint ANT_IFA_USB_2_4GHZ_50R
pins: 1 RF, 2 GND

## AO4805
designator Q?
MOSFET P-Channel Vds=-30V Vgs=+-25V Id=-9A Rds(on|=18mOhms; Manufacturer: Alpha & Omega Semicon; Manufacturer Part Number: AO4805; LCSC: C38943
footprint SOIC-8 (SOIC, 8-Leads, Body 4.91x3.90mm, Pitch 1.27mm, IPC Medium Density)
part A pins: 3 S1, 4 G1, 5 D1, 6 D1
part B pins: 1 S2, 2 G2, 7 D2, 8 D2

## AOZ1360AIL
designator U?
28V Programmable Current-Limited Load Switch SO-8; Manufacturer: ALPHA & OMEGA SEMICON; Manufacturer Part Number: AOZ1360AIL
footprint SO-8L (SOIC, 8-Leads, Body 4.90x3.90mm, Pitch 1.27mm, IPC Medium Density)
pins: 1 IN (power), 2 IN (power), 3 GND (power), 4 SS, 5 EN (in), 6 SET (power), 7 OUT (power), 8 OUT (power)

## AP2172SG-13
designator U?
1A DUAL CHANNEL CURRENT-LIMITED POWER SWITCH Enable Active High; Manufacturer: Diodes Incorporated; Manufacturer Part Number: AP2172SG-13
footprint SO-8L (SOIC, 8-Leads, Body 4.90x3.90mm, Pitch 1.27mm, IPC Medium Density)
pins: 1 GND (power), 2 IN (power), 3 EN1 (in), 4 EN2 (in), 5 FLG2 (oc), 6 OUT2 (power), 7 OUT1 (power), 8 FLG1 (oc)

## AP2191DWG-7
designator U?
1.5A SINGLE CHANNEL CURRENT-LIMITED POWER SWITCH WITH OUTPUT DISCHARGE (ENABLE ACTIVE HIGH); Manufacturer: Diodes Incorporated; Manufacturer Part Number: AP2191DWG-7; Distributor Link: https://www.mouser.de/ProductDetail/Diodes-Incorporated/AP2191DWG-7?qs=abZ1nkZpTuNuhhoAfnXVRw%3D%3D
footprint SOT-23-5 (SOT23, 5-Leads, Body 2,90x2,80mm, Pitch 0,95mm, IPC Medium Density)
pins: 1 OUT (power), 2 GND (power), 3 ~{FLAG} (oc), 4 EN (in), 5 IN (power)

## AP3428KTTR-G1
designator U?
1.5MHZ, 1A STEP-DOWN DC-DC BUCK CONVERTER; Manufacturer: Diodes Incorporated; Manufacturer Part Number: AP3428KTTR-G1
footprint TSOT25 (SOT23, 5-Leads, Body 2.90x2.80mm, Pitch 0.95mm, IPC Medium Density)
pins: 1 EN (in), 2 GND (power), 3 LX (power), 4 VIN (power), 5 FB (in)

## AP9101CAK6-BVTRG1
designator U?
1-Cell Li-On Battery Charger and Protection IC; Manufacturer: Diodes Incorporated; Manufacturer Part Number: AP9101CAK6-BVTRG1; Distributor Link: https://www.mouser.de/ProductDetail/Diodes-Incorporated/AP9101CAK6-BVTRG1?qs=lQAVKuKFhkK%2FBM4lfGfubA%3D%3D
footprint SOT-23-5 (SOT23, 5-Leads, Body 2,90x2,80mm, Pitch 0,95mm, IPC Medium Density)
pins: 1 VM (power), 2 VDD (power), 3 VSS (power), 4 DO (out), 5 CO (out)

## AP62250WU-7
designator U?
4.2V TO 18V INPUT, 2.5A LOW IQ SYNCHRONOUS BUCK CONVERTER; Manufacturer: Diodes Incorporated; Manufacturer Part Number: AP62250WU-7; Distributor Link: https://www.mouser.de/ProductDetail/Diodes-Incorporated/AP62250WU-7?qs=7MVldsJ5Uax1PUc8sdeimQ%3D%3D
footprint TSOT-26-6 (TSOP, 6-Leads, Body 2.90x1.60mm, Pitch 0.95mm, IPC Medium Density)
pins: 1 GND (power), 2 SW (power), 3 VIN (power), 4 FB (in), 5 EN (in), 6 BST (power)

## AP64060QWU-7
designator U?
4.5V TO 40V INPUT, 600mA SYNCHRONOUS BUCK WITH ENHANCED EMI REDUCTION; Manufacturer: Diodes Incorporated; Manufacturer Part Number: AP64060QWU-7; Distributor Link: https://eu.mouser.com/ProductDetail/Diodes-Incorporated/AP64060QWU-7?qs=Li%252BoUPsLEnvtPycFvZmEcQ%3D%3D
footprint TSOT-26-6 (TSOP, 6-Leads, Body 2.90x1.60mm, Pitch 0.95mm, IPC Medium Density)
pins: 1 BST (power), 2 GND (power), 3 FB (in), 4 EN (in), 5 VIN (power), 6 SW (power)

## APA-106-F5
designator D?
Addressable RGB LED 5MM THT; Manufacturer: iPixel; Manufacturer Part Number: APA-106-F5; Datasheet: https://www.mouser.de/datasheet/2/813/COM_12877-2489746.pdf
footprint LED_RGB_5MM_THT
pins: 1 DIN (in), 2 VDD (power), 3 GND (power), 4 DOUT (out)

## AS4C4M16SA-7BCN
designator U?
64M (4M x 16 bit) Synchronous DRAM (SDRAM) FBGA-54; Manufacturer: Alliance Memory; Manufacturer Part Number: AS4C4M16SA-7BCN
footprint BGA54C80P9X9_800X800X120 (BGA, 54-Leads, Body 8.00x8.00mmx1.20mm, Pitch 0.80mm)
pins: A1 VSS (power), A2 DQ15 (io), A3 VSSQ (power), A7 VDDQ (power), A8 DQ0 (io), A9 VDD (power), B1 DQ14 (io), B2 DQ13 (io), B3 VDDQ (power), B7 VSSQ (power), B8 DQ2 (io), B9 DQ1 (io), C1 DQ12 (io), C2 DQ11 (io), C3 VSSQ (power), C7 VDDQ (power), C8 DQ4 (io), C9 DQ3 (io), D1 DQ10 (io), D2 DQ9 (io), D3 VDDQ (power), D7 VSSQ (power), D8 DQ6 (io), D9 DQ5 (io), E1 DQ8 (io), E2 NC, E3 VSS (power), E7 VDD (power), E8 LDQM (in), E9 DQ7 (io), F1 UDQM (in), F2 CLK (in), F3 CKE (in), F7 NCAS (in), F8 NRAS (in), F9 NWE (in), G1 NC, G2 A11 (in), G3 A9 (in), G7 BA0 (in), G8 BA1 (in), G9 NCS (in), H1 A8 (in), H2 A7 (in), H3 A6 (in), H7 A0 (in), H8 A1 (in), H9 A10 (in), J1 VSS (power), J2 A5 (in), J3 A4 (in), J7 A3 (in), J8 A2 (in), J9 VDD (power)
text: Alliance; 64Mbit SDRAM; FBGA-54

## AS120-M
designator J?
AS120 male 2-pin AMASS; Manufacturer: AMASS; Manufacturer Part Number: AS120-M
footprint AS120-M
pins: 1 V+ (power), 2 V- (power)

## ASE3-25.000MHZ-EK-T
designator X?
Standard Clock Oscillators 25 MHZ 1.8V 15PF 4-PIN 3.2mm x 2.5mm; Manufacturer: ABRACON; Manufacturer Part Number: ASE3-25.000MHZ-EK-T
footprint XTAL_3225
pins: 1 EN (in), 2 GND (power), 3 OUT, 4 VDD (power)
text: 25MHz

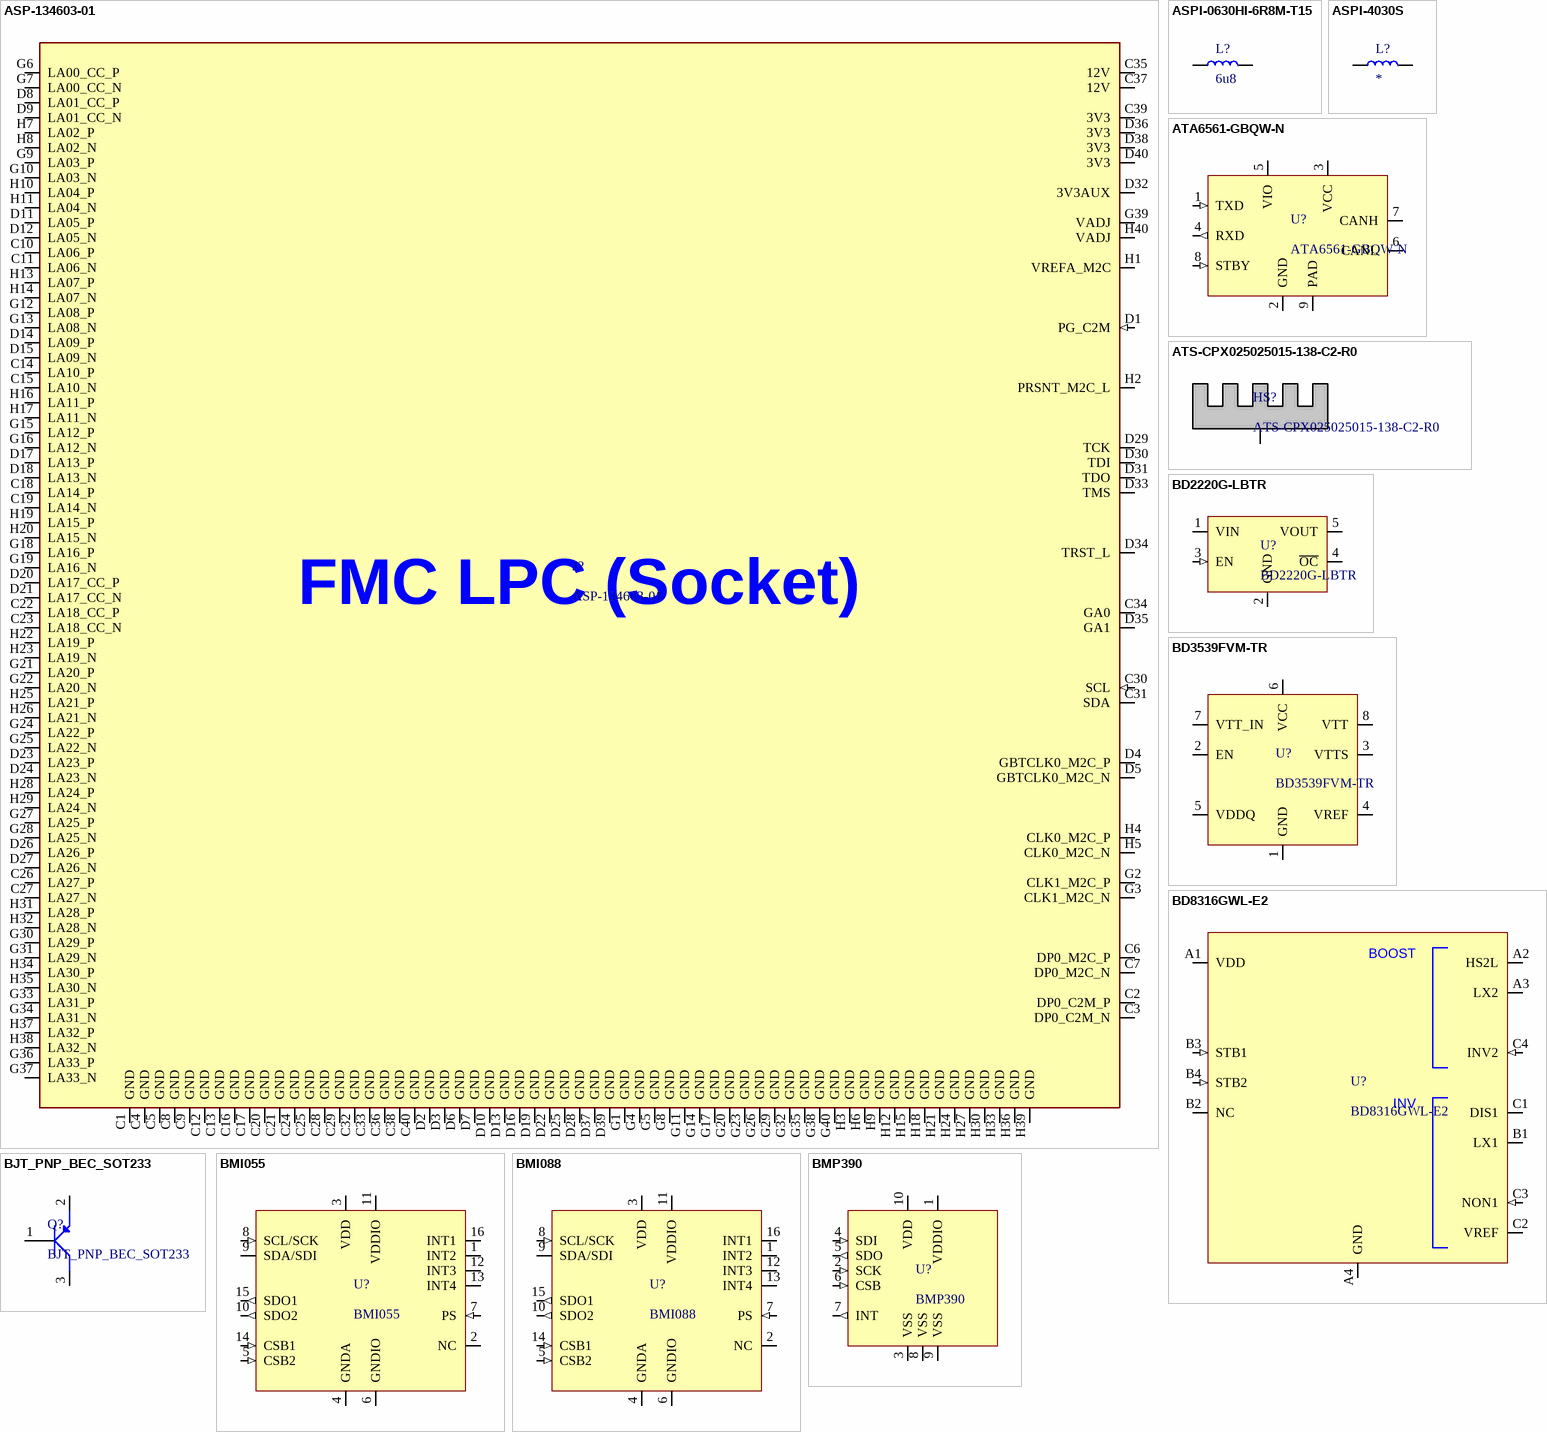
[diagram p4: symbols ASP-134603-01 to BMP390]

## ASP-134603-01
designator J?
VITA 57.1 FMC Connector LPC; Manufacturer: Samtec; Manufacturer Part Number: ASP-134603-01; Distributor Link: https://www.mouser.de/ProductDetail/Samtec/ASP-134603-01?qs=92ilVni64gy4PAaa88apew%3D%3D
footprint ASP-134603-01
pins: C1 GND (power), C2 DP0_C2M_P (io), C3 DP0_C2M_N (io), C4 GND (power), C5 GND (power), C6 DP0_M2C_P (io), C7 DP0_M2C_N (io), C8 GND (power), C9 GND (power), C10 LA06_P (io), C11 LA06_N (io), C12 GND (power), C13 GND (power), C14 LA10_P (io), C15 LA10_N (io), C16 GND (power), C17 GND (power), C18 LA14_P (io), C19 LA14_N (io), C20 GND (power), C21 GND (power), C22 LA18_CC_P (io), C23 LA18_CC_N (io), C24 GND (power), C25 GND (power), C26 LA27_P (io), C27 LA27_N (io), C28 GND (power), C29 GND (power), C30 SCL (in), C31 SDA (io), C32 GND (power), C33 GND (power), C34 GA0 (io), C35 12V (power), C36 GND, C37 12V (power), C38 GND, C39 3V3 (power), C40 GND, D1 PG_C2M (in), D2 GND (power), D3 GND (power), D4 GBTCLK0_M2C_P (io), D5 GBTCLK0_M2C_N (io), D6 GND (power), D7 GND (power), D8 LA01_CC_P (io), D9 LA01_CC_N (io), D10 GND (power), D11 LA05_P (io), D12 LA05_N (io), D13 GND (power), D14 LA09_P (io), D15 LA09_N (io), D16 GND (power), D17 LA13_P (io), D18 LA13_N (io), D19 GND (power), D20 LA17_CC_P (io), D21 LA17_CC_N (io), D22 GND (power), D23 LA23_P (io), D24 LA23_N (io), D25 GND (power), D26 LA26_P (io), D27 LA26_N (io), D28 GND (power), D29 TCK (io), D30 TDI (io), D31 TDO (io), D32 3V3AUX (power), D33 TMS (io), D34 TRST_L (io), D35 GA1 (io), D36 3V3 (power), D37 GND (power), D38 3V3 (power), D39 GND (power), D40 3V3 (power), G1 GND (power), G2 CLK1_M2C_P (io), G3 CLK1_M2C_N (io), G4 GND (power), G5 GND (power), G6 LA00_CC_P (io), G7 LA00_CC_N (io), G8 GND (power), G9 LA03_P (io), G10 LA03_N (io), G11 GND (power), G12 LA08_P (io), G13 LA08_N (io), G14 GND (power), G15 LA12_P (io), G16 LA12_N (io), G17 GND (power), G18 LA16_P (io), G19 LA16_N (io), G20 GND (power), G21 LA20_P (io), G22 LA20_N (io), G23 GND (power), G24 LA22_P (io), G25 LA22_N (io), G26 GND (power), G27 LA25_P (io), G28 LA25_N (io), G29 GND (power), G30 LA29_P (io), G31 LA29_N (io), G32 GND (power), G33 LA31_P (io), G34 LA31_N (io), G35 GND (power), G36 LA33_P (io), G37 LA33_N (io), G38 GND (power), G39 VADJ (power), G40 GND (power), H1 VREFA_M2C (power), H2 PRSNT_M2C_L (io), H3 GND (power), H4 CLK0_M2C_P (io), H5 CLK0_M2C_N (io), H6 GND (power), H7 LA02_P (io), H8 LA02_N (io), H9 GND (power), H10 LA04_P (io), H11 LA04_N (io), H12 GND (power), H13 LA07_P (io), H14 LA07_N (io), H15 GND (power), H16 LA11_P (io), H17 LA11_N (io), H18 GND (power), H19 LA15_P (io), H20 LA15_N (io), H21 GND (power), H22 LA19_P (io), H23 LA19_N (io), H24 GND (power), H25 LA21_P (io), H26 LA21_N (io), H27 GND (power), H28 LA24_P (io), H29 LA24_N (io), H30 GND (power), H31 LA28_P (io), H32 LA28_N (io), H33 GND (power), H34 LA30_P (io), H35 LA30_N (io), H36 GND (power), H37 LA32_P (io), H38 LA32_N (io), H39 GND (power), H40 VADJ (power)
text: FMC LPC (Socket)

## ASPI-0630HI-6R8M-T15
designator L?, comment 6u8
Inductor SMD 6.8uH 20% 8A Shielded; Manufacturer: ABRACON; Manufacturer Part Number: ASPI-0630HI-6R8M-T15
footprint ASPI-0630HI-6R8M-T15
pins: 1, 2

## ASPI-4030S
designator L?
Power Inductor SMD ASPI-4030S Series; Manufacturer: ABRACON; Manufacturer Part Number: ASPI-4030S*; Distirbutor Link: *
footprint ASPI-4030S
pins: 1, 2

## ATA6561-GBQW-N
designator U?
CAN Interface IC High-Speed FD VDFN-8; Manufacturer: Microchip; Manufacturer Part Number: ATA6561-GBQW-N; Distributor Link: https://www.mouser.de/ProductDetail/Microchip-Technology/ATA6561-GBQW-N?qs=y6ZabgHbY%252BxuRHjTmdpZUA%3D%3D; LCSC: C617297
footprint VDFN-8
pins: 1 TXD (in), 2 GND (power), 3 VCC (power), 4 RXD (out), 5 VIO (power), 6 CANL (io), 7 CANH (io), 8 STBY (in), 9 PAD (power)

## ATS-CPX025025015-138-C2-R0
designator HS?
pushPIN™ Heat Sink 25x25x15mm; Manufacturer: ATS; Manufacturer Part Number: ATS-CPX025025015-138-C2-R0; Distributor Link: https://www.digikey.de/en/products/detail/advanced-thermal-solutions-inc/ATS-CPX025025015-138-C2-R0/4754010
footprint ATS-CPX025025015-138-C2-R0
pins: MH

## BD2220G-LBTR
designator U?
High-Side USB Current Limited Power Distribution Switch 1A SMD; Manufacturer: ROHM Semiconductor; Manufacturer Part Number: BD2220G-LBTR
footprint SSOP5
pins: 1 VIN (power), 2 GND (power), 3 EN (in), 4 ~{OC}, 5 VOUT

## BD3539FVM-TR
designator U?
1.0V to 5.5V, 1A 1Ch Termination Regulator for DDR-SDRAMs; Manufacturer: ROHM Semiconductor; Manufacturer Part Number: BD3539FVM-TR
footprint MSOP8 (TSOP, 8-Leads, Body 2.90x2.80mm, Pitch 0.65mm, IPC Medium Density)
pins: 1 GND, 2 EN, 3 VTTS, 4 VREF, 5 VDDQ, 6 VCC, 7 VTT_IN, 8 VTT

## BD8316GWL-E2
designator U?
Step-up and inverted 2-channel DC/DC converter with Built-in Power MOSFET 1.6MHz 1A; Manufacturer: ROHM; Manufacturer Part Number: BD8316GWL-E2; Distributor Link: https://www.mouser.de/ProductDetail/ROHM-Semiconductor/BD8316GWL-E2?qs=9Cg39qEKpi4sbGytSKsU5Q%3D%3D
footprint UCSP50L1
pins: A1 VDD (power), A2 HS2L (power), A3 LX2 (power), A4 GND (power), B1 LX1 (power), B2 NC, B3 STB1 (in), B4 STB2 (in), C1 DIS1 (power), C2 VREF (power), C3 NON1 (in), C4 INV2 (in)
text: BOOST; INV

## BJT_PNP_BEC_SOT233
designator Q?
Transistor BJT PNP SOT-23-3 Package Base=1 Emitter=2 Collector=3
footprint SOT-23-3
pins: 1 B, 2 E, 3 C

## BMI055
designator U?
Inertial Measurement Unit IMU 6-Axis LGA; Manufacturer: Bosch; Manufacturer Part Number: BMI055; LCSC: C189620
footprint BMI088
pins: 1 INT2 (io), 2 NC, 3 VDD (power), 4 GNDA (power), 5 CSB2 (in), 6 GNDIO (power), 7 PS (in), 8 SCL/SCK (in), 9 SDA/SDI (io), 10 SDO2 (out), 11 VDDIO (power), 12 INT3 (io), 13 INT4 (io), 14 CSB1 (in), 15 SDO1 (out), 16 INT1 (io)

## BMI088
designator U?
Inertial Measurement Unit IMU 6-Axis LGA; Manufacturer: Bosch; Manufacturer Part Number: BMI088
footprint BMI088
pins: 1 INT2 (io), 2 NC, 3 VDD (power), 4 GNDA (power), 5 CSB2 (in), 6 GNDIO (power), 7 PS (in), 8 SCL/SCK (in), 9 SDA/SDI (io), 10 SDO2 (out), 11 VDDIO (power), 12 INT3 (io), 13 INT4 (io), 14 CSB1 (in), 15 SDO1 (out), 16 INT1 (io)

## BMP390
designator U?
Digital Pressure Sensor SPI/I2C; Manufacturer: Bosch; Manufacturer Part Number: BMP390; Distributor Link: https://www.mouser.de/ProductDetail/Bosch-Sensortec/BMP390?qs=QNEnbhJQKvYQVfvRMgo2YA%3D%3D
footprint LGA10_BMP390
pins: 1 VDDIO (power), 2 SCK (in), 3 VSS (power), 4 SDI (in), 5 SDO (out), 6 CSB (in), 7 INT (out), 8 VSS (power), 9 VSS (power), 10 VDD (power)

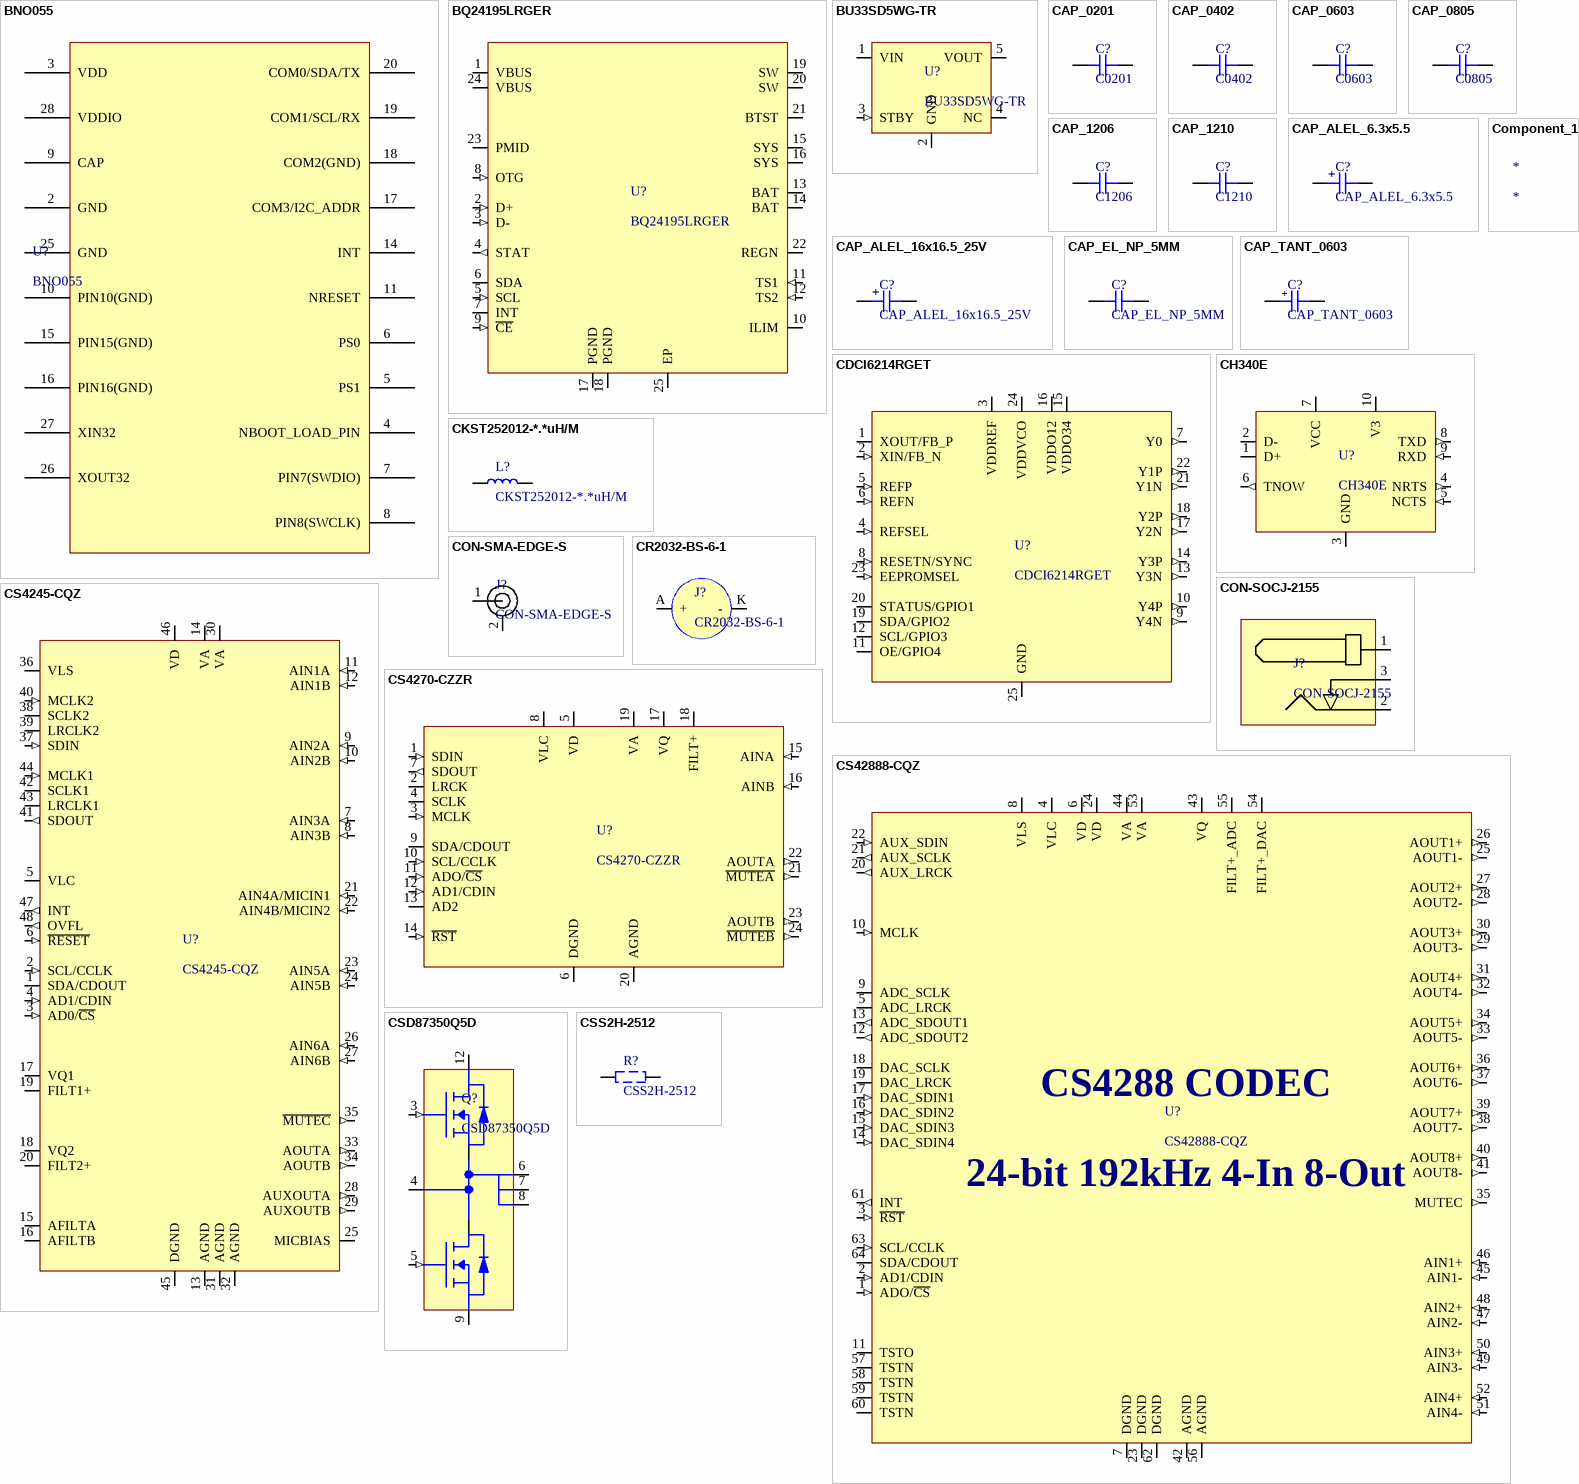
[diagram p5: symbols BNO055 to CSS2H-2512]

## BNO055
designator U?
IMU ACCEL/GYRO/MAG I2C 28LGA Accelerometer, Gyroscope, Magnetometer, 9 Axis Sensor I2C, UART Output
pins: 2 GND, 3 VDD, 4 NBOOT_LOAD_PIN, 5 PS1, 6 PS0, 7 PIN7(SWDIO), 8 PIN8(SWCLK), 9 CAP, 10 PIN10(GND), 11 NRESET, 14 INT, 15 PIN15(GND), 16 PIN16(GND), 17 COM3/I2C_ADDR, 18 COM2(GND), 19 COM1/SCL/RX, 20 COM0/SDA/TX, 25 GND, 26 XOUT32, 27 XIN32, 28 VDDIO

## BQ24195LRGER
designator U?
I2C Controlled 2.5-A /4.5-A Single Cell USB/Adapter Charger with 5.1 V at 1A /5.1 V at 2.1 A Synchronous Boost Operation; Manufacturer: Texas Instruments; Manufacturer Part Number: BQ24195LRGER; Distributor Link: https://www.mouser.de/ProductDetail/Texas-Instruments/BQ24195LRGER?qs=E2%2FxqS9xjzoHv98LC15jGg%3D%3D
footprint QFN-24 (QFN, 24-Leads, Body 4.00x4.00mm, Pitch 0.50mm, Thermal Pad 2.50x2.50mm, IPC Medium Density)
pins: 1 VBUS (power), 2 D+ (in), 3 D- (in), 4 STAT (out), 5 SCL (in), 6 SDA (io), 7 INT (oc), 8 OTG (in), 9 ~{CE} (in), 10 ILIM, 11 TS1 (in), 12 TS2 (in), 13 BAT (power), 14 BAT (power), 15 SYS (power), 16 SYS (power), 17 PGND (power), 18 PGND (power), 19 SW (oe), 20 SW (power), 21 BTST (power), 22 REGN (power), 23 PMID (power), 24 VBUS (power), 25 EP (power)

## BU33SD5WG-TR
designator U?
LDO Voltage Regulator 3.3V 500mA; Manufacturer: ROHM Semiconductor; Manufacturer Part Number: BU33SD5WG-TR
footprint SOT-23-5 (SOT23, 5-Leads, Body 2,90x2,80mm, Pitch 0,95mm, IPC Medium Density)
pins: 1 VIN (power), 2 GND (power), 3 STBY (in), 4 NC, 5 VOUT (power)

## CAP_0201
designator C?, comment C0201
Capacitor SMD 0201; Manufacturer: *; Manufacturer Part Number: *; Distributor Link: *; LCSC: *; Rating: *; Dielectric: *
footprint CAP_0201
pins: 1, 2

## CAP_0402
designator C?, comment C0402
Capacitor SMD 0402; Manufacturer: *; Manufacturer Part Number: *; Distributor Link: *; LCSC: *; Rating: *; Dielectric: *
footprint CAP_0402
pins: 1, 2

## CAP_0603
designator C?, comment C0603
Capacitor SMD 0603; Manufacturer: *; Manufacturer Part Number: *; Distributor Link: *; LCSC: *; Rating: *; Dielectric: *
footprint CAP_0603
pins: 1, 2

## CAP_0805
designator C?, comment C0805
Capacitor SMD 0805; Manufacturer: *; Manufacturer Part Number: *; Distributor Link: *; LCSC: *; Rating: *; Dielectric: *
footprint CAP_0805
pins: 1, 2

## CAP_1206
designator C?, comment C1206
Capacitor SMD 1206; Manufacturer: *; Manufacturer Part Number: *; Distributor Link: *; LCSC: *; Rating: *; Dielectric: *
footprint CAP_1206
pins: 1, 2

## CAP_1210
designator C?, comment C1210
Capacitor SMD 1210; Manufacturer: *; Manufacturer Part Number: *; Distributor Link: *; LCSC: *; Rating: *; Dielectric: *
footprint CAP_1210
pins: 1, 2

## CAP_ALEL_6.3x5.5
designator C?
Capacitor SMD Aluminium Electrolytic 6.3mm Diameter 5.5mm Height; Manufacturer: *; Manufacturer Part Number: *; Distributor Link: *; LCSC: *
footprint CAP_AE_SMD_D6MM3_H5M55 (Aluminum Electrolytic Capacitor, Body 6.30x6.60x5.50mm, IPC Low Density)
pins: 1, 2
text: +

## CAP_ALEL_16x16.5_25V
designator C?
Capacitor SMD Aluminium Electrolytic 16x16.5mm 25V; Manufacturer: *; Manufacturer Part Number: *
footprint CAP_ALEL_16x16.5 (Aluminum Electrolytic Capacitor, Body 17.00x17.00x17.00mm, IPC Low Density)
pins: 1, 2
text: +

## CAP_EL_NP_5MM
designator C?
Capacitor SMD Electrolytic Non-Polarised 5mm Diameter; Manufacturer: Nichicon; Manufacturer Part Number: *
footprint CAP-EL-NP-5MM
pins: 1, 2

## CAP_TANT_0603
designator C?
Capacitor SMD Tantalum 0603; Manufacturer: *; Manufacturer Part Number: *; Distributor Link: *; LCSC: *
footprint CAP_TANT_0603
pins: A, K
text: +

## CDCI6214RGET
designator U?
Ultra-Low Power Clock Generator With PCIe Support Four Programmable Outputs and EEPROM; Manufacturer: Texas Instruments; Manufacturer Part Number: CDCI6214RGET; Distributor Link: https://eu.mouser.com/ProductDetail/Texas-Instruments/CDCI6214RGET?qs=HXFqYaX1Q2znJq%252BVfYpkgA%3D%3D; LCSC: C2651236
footprint VQFN-24-0MM5
pins: 1 XOUT/FB_P (io), 2 XIN/FB_N (in), 3 VDDREF (power), 4 REFSEL (in), 5 REFP (in), 6 REFN (in), 7 Y0 (out), 8 RESETN/SYNC (in), 9 Y4N (out), 10 Y4P (out), 11 OE/GPIO4 (io), 12 SCL/GPIO3 (io), 13 Y3N (out), 14 Y3P (out), 15 VDDO34 (power), 16 VDDO12 (power), 17 Y2N (out), 18 Y2P (out), 19 SDA/GPIO2 (io), 20 STATUS/GPIO1 (io), 21 Y1N (out), 22 Y1P (out), 23 EEPROMSEL (in), 24 VDDVCO (power), 25 GND (power)

## CH340E
designator U?
USB-to-UART Transceiver MSOP-10; Manufacturer Part Number: CH340E
footprint MSOP-10
pins: 1 D+ (io), 2 D- (io), 3 GND (power), 4 NRTS (out), 5 NCTS (in), 6 TNOW (out), 7 VCC (power), 8 TXD (out), 9 RXD (in), 10 V3 (power)

## CKST252012-*.*uH/M
designator L?
Inductor SMD Shielded 20%; Manufacturer: Shenzhen Cenker Enterprise Ltd; Manufacturer Part Number: CKST252012-*.*uH/M; Distributor Link: *
footprint CKST252012
pins: 1, 2

## Component_1
designator *

## CON-SMA-EDGE-S
designator J?
RF Connector SMA Female 50 Ohms 18 GHz PCB Edge Mount; Manufacturer: RF Solutions; Manufacturer Part Number: CON-SMA-EDGE-S
footprint CON-SMA-EDGE-S
pins: 1, 2

## CON-SOCJ-2155
designator J?
DC Barrell Jack 2.1mm 30V 2.5A THT; Manufacturer: Gravitech; Manufacturer Part Number: CON-SOCJ-2155
footprint CON-SOCJ-2155
pins: 1, 2, 3

## CR2032-BS-6-1
designator J?
CR2032 Coin Cell Battery Holder; Manufacturer: Q&J; Manufacturer Part Number: CR2032-BS-6-1
footprint CR2032
pins: A +, K -

## CS4245-CQZ
designator U?
104 dB, 24-Bit, 192 kHz Stereo Audio Codec; Manufacturer: Cirrus Logic; Manufacturer Part Number: CS4245-CQZ
footprint LQFP-48
pins: 1 SDA/CDOUT (io), 2 SCL/CCLK (in), 3 AD0/~{CS} (in), 4 AD1/CDIN (in), 5 VLC (power), 6 ~{RESET} (in), 7 AIN3A (in), 8 AIN3B (in), 9 AIN2A (in), 10 AIN2B (in), 11 AIN1A (in), 12 AIN1B (in), 13 AGND (power), 14 VA (power), 15 AFILTA (power), 16 AFILTB (power), 17 VQ1 (power), 18 VQ2 (power), 19 FILT1+ (power), 20 FILT2+ (power), 21 AIN4A/MICIN1 (in), 22 AIN4B/MICIN2 (in), 23 AIN5A (in), 24 AIN5B (in), 25 MICBIAS (power), 26 AIN6A (in), 27 AIN6B (in), 28 AUXOUTA (out), 29 AUXOUTB (out), 30 VA (power), 31 AGND (power), 32 AGND (power), 33 AOUTA (out), 34 AOUTB (out), 35 ~{MUTEC} (out), 36 VLS (power), 37 SDIN (in), 38 SCLK2 (io), 39 LRCLK2 (io), 40 MCLK2 (in), 41 SDOUT (out), 42 SCLK1 (io), 43 LRCLK1 (io), 44 MCLK1 (in), 45 DGND (power), 46 VD (power), 47 INT (out), 48 OVFL (out)

## CS4270-CZZR
designator U?
24-Bit 192kHz Stereo Audio Codec TSSOP-24; Manufacturer: Cirrus Logic; Manufacturer Part Number: CS4270-CZZR
footprint TSSOP-24
pins: 1 SDIN (in), 2 LRCK (io), 3 MCLK (in), 4 SCLK (io), 5 VD (power), 6 DGND (power), 7 SDOUT (out), 8 VLC (power), 9 SDA/CDOUT (io), 10 SCL/CCLK (in), 11 ADO/~{CS} (in), 12 AD1/CDIN (in), 13 AD2, 14 ~{RST} (in), 15 AINA (in), 16 AINB (in), 17 VQ (power), 18 FILT+ (power), 19 VA (power), 20 AGND (power), 21 ~{MUTEA} (out), 22 AOUTA (out), 23 AOUTB (out), 24 ~{MUTEB} (out)

## CS42888-CQZ
designator U?
CODEC 108dB 192kHz 4-In 8-Out LQFP-64 Commercial Grade; Manufacturer: Cirrus Logic; Manufacturer Part Number: CS42888-CQZ
footprint LQFP-64-0.5mm (TSQFP, 64-Leads, Body 10.00x10.00mm, Pitch 0.50mm, IPC Medium Density)
pins: 1 ADO/~{CS} (in), 2 AD1/CDIN (in), 3 ~{RST} (in), 4 VLC (power), 5 ADC_LRCK (io), 6 VD (power), 7 DGND (power), 8 VLS (power), 9 ADC_SCLK (io), 10 MCLK (in), 11 TSTO, 12 ADC_SDOUT2 (out), 13 ADC_SDOUT1 (out), 14 DAC_SDIN4 (in), 15 DAC_SDIN3 (in), 16 DAC_SDIN2 (in), 17 DAC_SDIN1 (in), 18 DAC_SCLK (io), 19 DAC_LRCK (io), 20 AUX_LRCK (out), 21 AUX_SCLK (out), 22 AUX_SDIN (in), 23 DGND (power), 24 VD (power), 25 AOUT1- (out), 26 AOUT1+ (out), 27 AOUT2+ (out), 28 AOUT2- (out), 29 AOUT3- (out), 30 AOUT3+ (out), 31 AOUT4+ (out), 32 AOUT4- (out), 33 AOUT5- (out), 34 AOUT5+ (out), 35 MUTEC (out), 36 AOUT6+ (out), 37 AOUT6- (out), 38 AOUT7- (out), 39 AOUT7+ (out), 40 AOUT8+ (out), 41 AOUT8- (out), 42 AGND (power), 43 VQ (power), 44 VA (power), 45 AIN1- (in), 46 AIN1+ (in), 47 AIN2- (in), 48 AIN2+ (in), 49 AIN3- (in), 50 AIN3+ (in), 51 AIN4- (in), 52 AIN4+ (in), 53 VA (power), 54 FILT+_DAC (power), 55 FILT+_ADC (power), 56 AGND (power), 57 TSTN, 58 TSTN, 59 TSTN, 60 TSTN, 61 INT (out), 62 DGND (power), 63 SCL/CCLK (in), 64 SDA/CDOUT (io)
text: CS4288 CODEC; 24-bit 192kHz 4-In 8-Out

## CSD87350Q5D
designator Q?
Synchronous Buck NexFET™ Power Block; Manufacturer: Texas Instruments; Manufacturer Part Number: CSD87350Q5D; Distributor Link: https://eu.mouser.com/ProductDetail/Texas-Instruments/CSD87350Q5D?qs=JoYuLptCJEEhVuDl%2F9%2FpHA%3D%3D; LCSC: C140356
footprint LSON-CLIP-8
pins: 3 TG (in), 4 TGR, 5 BG (in), 6 VSW (power), 7 VSW (power), 8 VSW (power), 9 PGND (power), 12 VIN (power), D, S

## CSS2H-2512
designator R?
Current Sense Resistor SMD CSS2H-2512; Manufacturer: Bourns; Manufacturer Part Number: CSS2H-2512
footprint CSS2H-2512
pins: 1, 2

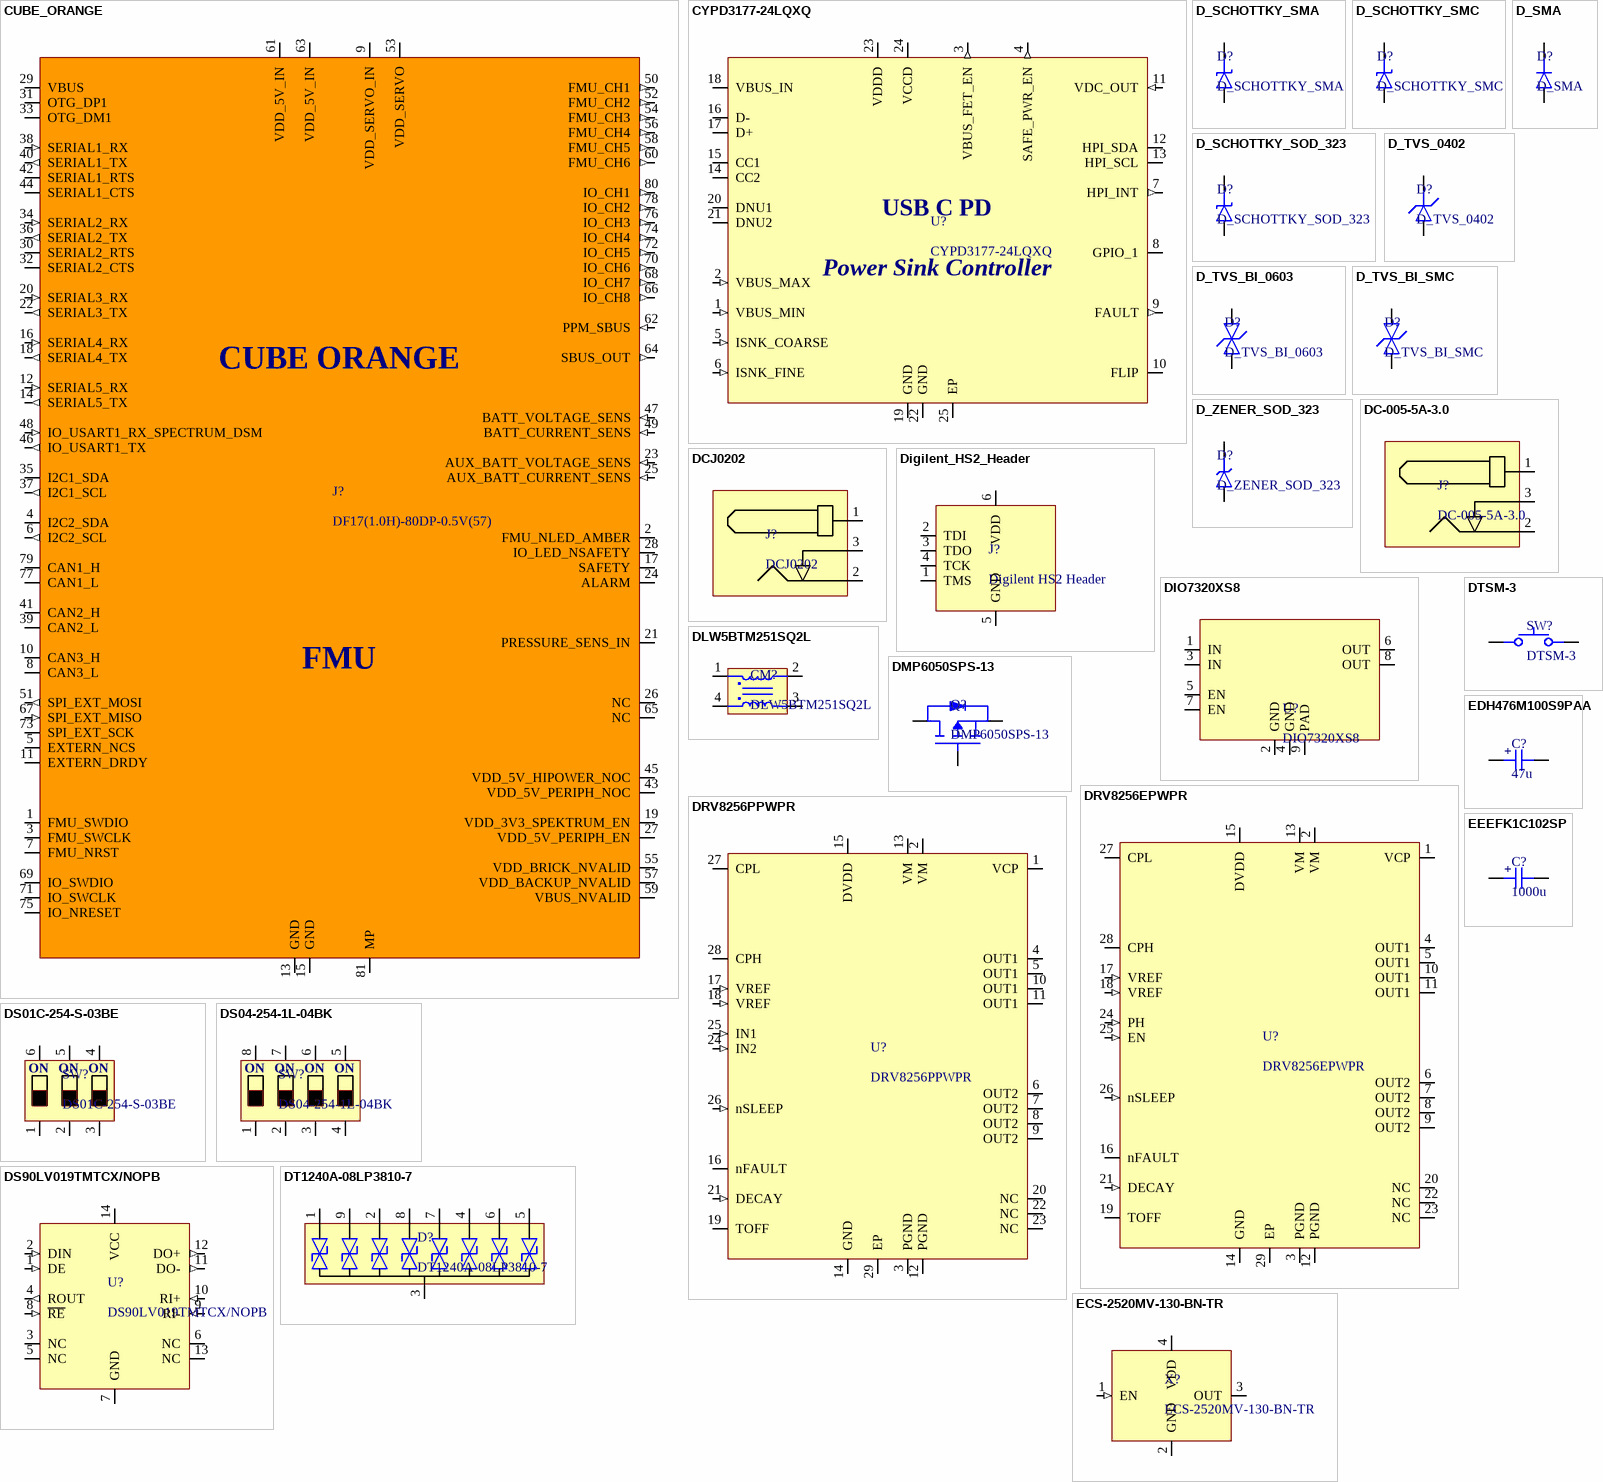
[diagram p6: symbols CUBE_ORANGE to EEEFK1C102SP]